# Altium integrated library AD DSP 16-Bit.IntLib: 146 symbols (part 2 of 7)
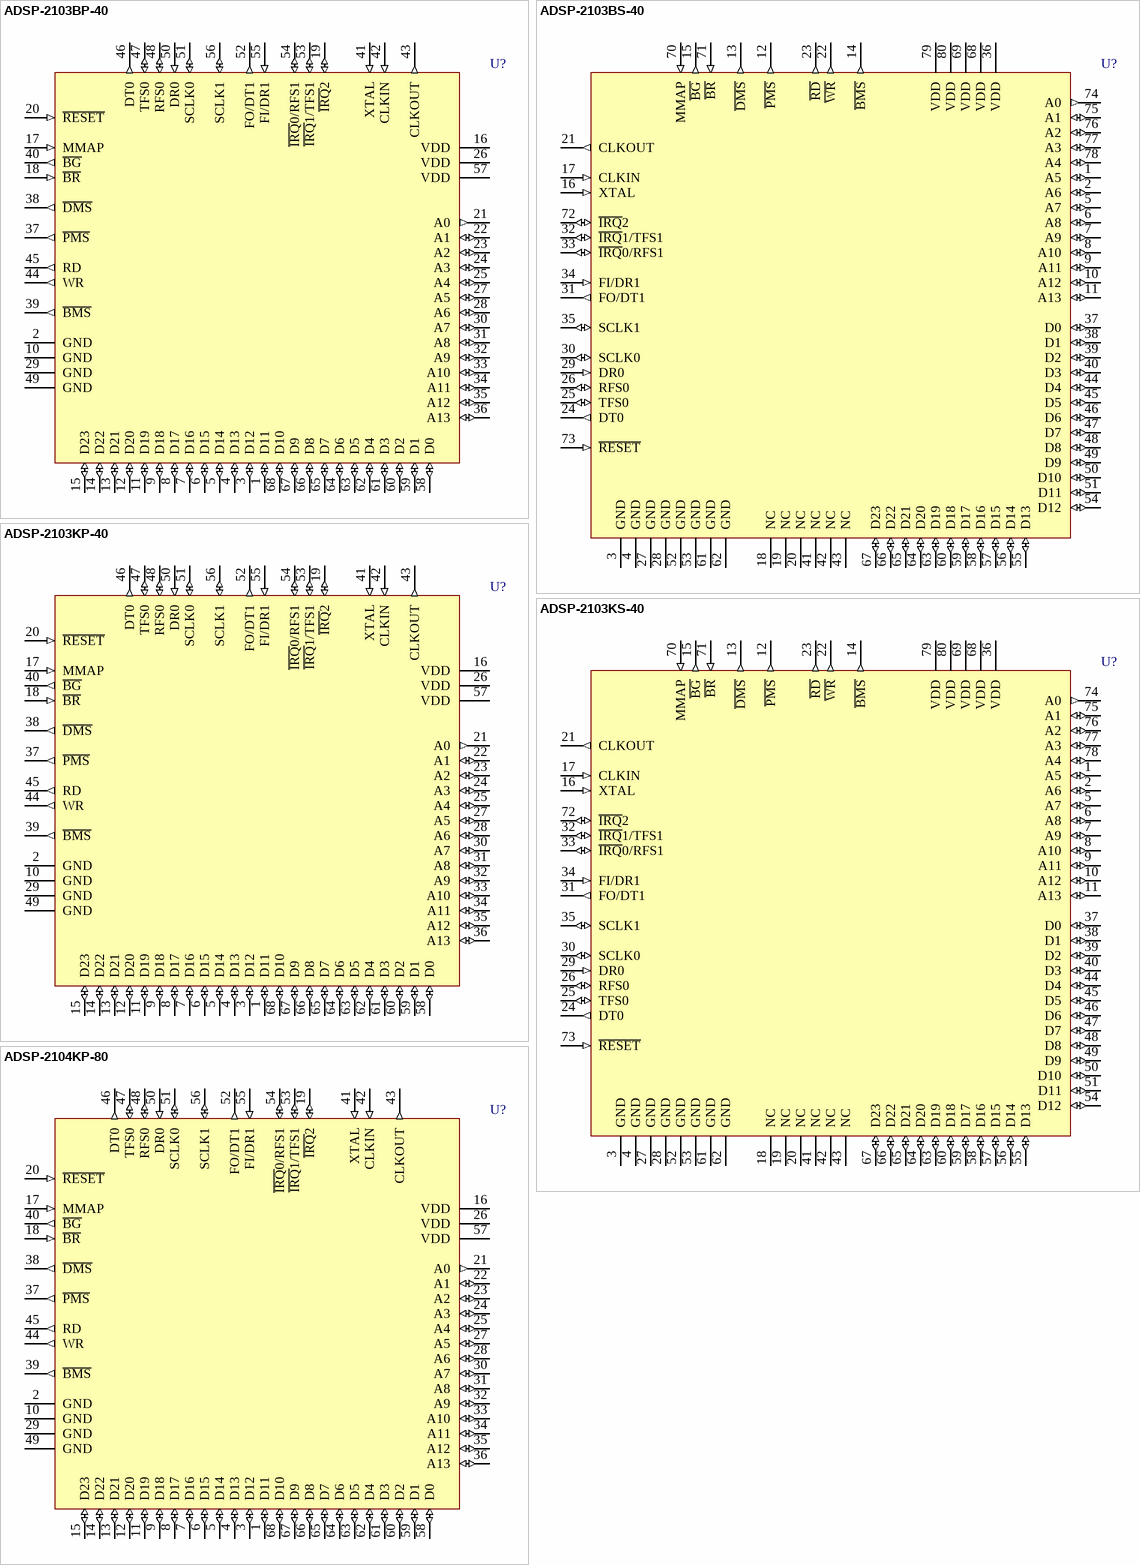
[diagram p46: symbols ADSP-2103BP-40 to ADSP-2104KP-80]

## ADSP-2103KP-40
designator U?
10.2 MIPS, 3.3V, 2 Serial Ports; Published: 24-Aug-2001; LatestRevisionDate: 13-Apr-2006; LatestRevisionNote: IPC-7351 Footprint Added.; DatasheetVersion: 1996; PackageReference: P-68A; Publisher: Altium Limited; PackageDescription: 68-Pin Leaded Chip Carrier 1.27 mm Pitch; Code_IPC: PLCC-68; ComponentLink1Description: Manufacturer Link; ComponentLink1URL: http://www.analog.com/; ComponentLink2Description: Datasheet; ComponentLink2URL: http://www.analog.com/UploadedFiles/Data_Sheets/88076770adsp21xx.pdf
footprint P-68A_N (Leaded Chip Carrier, 68-Leads, Body 24x24mm, Pitch 1.27mm, IPC Medium Density)
footprint P-68A_L (Leaded Chip Carrier, 68-Leads, Body 24x24mm, Pitch 1.27mm, IPC High Density)
footprint P-68A_M (Leaded Chip Carrier, 68-Leads, Body 24x24mm, Pitch 1.27mm, IPC Low Density)
3D model 2103-P-68A (68-Pin Leaded Chip Carrier 1.27 mm Pitch)
pins: 1 D11 (io), 2 GND (power), 3 D12 (io), 4 D13 (io), 5 D14 (io), 6 D15 (io), 7 D16 (io), 8 D17 (io), 9 D18 (io), 10 GND (power), 11 D19 (io), 12 D20 (io), 13 D21 (io), 14 D22 (io), 15 D23 (io), 16 VDD (power), 17 MMAP (in), 18 ~{BR} (in), 19 ~{IRQ}2 (io), 20 ~{RESET} (in), 21 A0 (out), 22 A1 (io), 23 A2 (io), 24 A3 (io), 25 A4 (io), 26 VDD (power), 27 A5 (io), 28 A6 (io), 29 GND (power), 30 A7 (io), 31 A8 (io), 32 A9 (io), 33 A10 (io), 34 A11 (io), 35 A12 (io), 36 A13 (io), 37 ~{PMS} (out), 38 ~{DMS} (out), 39 ~{BMS} (out), 40 ~{BG} (out), 41 XTAL (in), 42 CLKIN (in), 43 CLKOUT (out), 44 WR (out), 45 RD (out), 46 DT0 (out), 47 TFS0 (io), 48 RFS0 (io), 49 GND (power), 50 DR0 (in), 51 SCLK0 (io), 52 FO/DT1 (out), 53 ~{IRQ}1/TFS1 (io), 54 ~{IRQ}0/RFS1 (io), 55 FI/DR1 (in), 56 SCLK1 (io), 57 VDD (power), 58 D0 (io), 59 D1 (io), 60 D2 (io), 61 D3 (io), 62 D4 (io), 63 D5 (io), 64 D6 (io), 65 D7 (io), 66 D8 (io), 67 D9 (io), 68 D10 (io)

## ADSP-2103KS-40
designator U?
10.2 MIPS, 3.3V, 2 Serial Ports; Published: 24-Aug-2001; LatestRevisionDate: 13-Apr-2006; LatestRevisionNote: IPC-7351 Footprint Added.; DatasheetVersion: 1996; PackageVersion: 1996; PackageReference: S-80; Publisher: Altium Limited; PackageDescription: 80-Pin Quad Flat Pack 0.65 mm Pitch; Code_IPC: QFP65P1720X1720-80; ComponentLink1Description: Manufacturer Link; ComponentLink1URL: http://www.analog.com/; ComponentLink2Description: Datasheet; ComponentLink2URL: http://www.analog.com/UploadedFiles/Data_Sheets/88076770adsp21xx.pdf
footprint S-80_N (QFP, 80-Leads, Body 14 x 14mm, Pitch 0.65mm, IPC Medium Density)
footprint S-80_L (QFP, 80-Leads, Body 14 x 14mm, Pitch 0.65mm, IPC High Density)
footprint S-80_M (QFP, 80-Leads, Body 14 x 14mm, Pitch 0.65mm, IPC Low Density)
3D model 2103-S80 (80-Pin Quad Flat Pack 0.65 mm Pitch)
pins: 1 A5 (io), 2 A6 (io), 3 GND (power), 4 GND (power), 5 A7 (io), 6 A8 (io), 7 A9 (io), 8 A10 (io), 9 A11 (io), 10 A12 (io), 11 A13 (io), 12 ~{PMS} (out), 13 ~{DMS} (out), 14 ~{BMS} (out), 15 ~{BG} (out), 16 XTAL (in), 17 CLKIN (in), 18 NC, 19 NC, 20 NC, 21 CLKOUT (out), 22 ~{WR} (out), 23 ~{RD} (out), 24 DT0 (out), 25 TFS0 (io), 26 RFS0 (io), 27 GND (power), 28 GND (power), 29 DR0 (in), 30 SCLK0 (io), 31 FO/DT1 (out), 32 ~{IRQ}1/TFS1 (io), 33 ~{IRQ}0/RFS1 (io), 34 FI/DR1 (in), 35 SCLK1 (io), 36 VDD (power), 37 D0 (io), 38 D1 (io), 39 D2 (io), 40 D3 (io), 41 NC, 42 NC, 43 NC, 44 D4 (io), 45 D5 (io), 46 D6 (io), 47 D7 (io), 48 D8 (io), 49 D9 (io), 50 D10 (io), 51 D11 (io), 52 GND (power), 53 GND (power), 54 D12 (io), 55 D13 (io), 56 D14 (io), 57 D15 (io), 58 D16 (io), 59 D17 (io), 60 D18 (io), 61 GND (power), 62 GND (power), 63 D19 (io), 64 D20 (io), 65 D21 (io), 66 D22 (io), 67 D23 (io), 68 VDD (power), 69 VDD (power), 70 MMAP (in), 71 ~{BR} (in), 72 ~{IRQ}2 (io), 73 ~{RESET} (in), 74 A0 (out), 75 A1 (io), 76 A2 (io), 77 A3 (io), 78 A4 (io), 79 VDD (power), 80 VDD (power)

## ADSP-2104KP-80
designator U?
20 MIPS, 5V, 2 Serial Ports; Published: 24-Aug-2001; LatestRevisionDate: 13-Apr-2006; LatestRevisionNote: IPC-7351 Footprint Added.; DatasheetVersion: 1996; PackageReference: P-68A; Publisher: Altium Limited; PackageDescription: 68-Pin Leaded Chip Carrier 1.27 mm Pitch; Code_IPC: PLCC-68; ComponentLink1Description: Manufacturer Link; ComponentLink1URL: http://www.analog.com/
footprint P-68A_N (Leaded Chip Carrier, 68-Leads, Body 24x24mm, Pitch 1.27mm, IPC Medium Density)
footprint P-68A_L (Leaded Chip Carrier, 68-Leads, Body 24x24mm, Pitch 1.27mm, IPC High Density)
footprint P-68A_M (Leaded Chip Carrier, 68-Leads, Body 24x24mm, Pitch 1.27mm, IPC Low Density)
3D model 2104-P-68A (68-Pin Leaded Chip Carrier 1.27 mm Pitch)
pins: 1 D11 (io), 2 GND (power), 3 D12 (io), 4 D13 (io), 5 D14 (io), 6 D15 (io), 7 D16 (io), 8 D17 (io), 9 D18 (io), 10 GND (power), 11 D19 (io), 12 D20 (io), 13 D21 (io), 14 D22 (io), 15 D23 (io), 16 VDD (power), 17 MMAP (in), 18 ~{BR} (in), 19 ~{IRQ}2 (io), 20 ~{RESET} (in), 21 A0 (out), 22 A1 (io), 23 A2 (io), 24 A3 (io), 25 A4 (io), 26 VDD (power), 27 A5 (io), 28 A6 (io), 29 GND (power), 30 A7 (io), 31 A8 (io), 32 A9 (io), 33 A10 (io), 34 A11 (io), 35 A12 (io), 36 A13 (io), 37 ~{PMS} (out), 38 ~{DMS} (out), 39 ~{BMS} (out), 40 ~{BG} (out), 41 XTAL (in), 42 CLKIN (in), 43 CLKOUT (out), 44 WR (out), 45 RD (out), 46 DT0 (out), 47 TFS0 (io), 48 RFS0 (io), 49 GND (power), 50 DR0 (in), 51 SCLK0 (io), 52 FO/DT1 (out), 53 ~{IRQ}1/TFS1 (io), 54 ~{IRQ}0/RFS1 (io), 55 FI/DR1 (in), 56 SCLK1 (io), 57 VDD (power), 58 D0 (io), 59 D1 (io), 60 D2 (io), 61 D3 (io), 62 D4 (io), 63 D5 (io), 64 D6 (io), 65 D7 (io), 66 D8 (io), 67 D9 (io), 68 D10 (io)

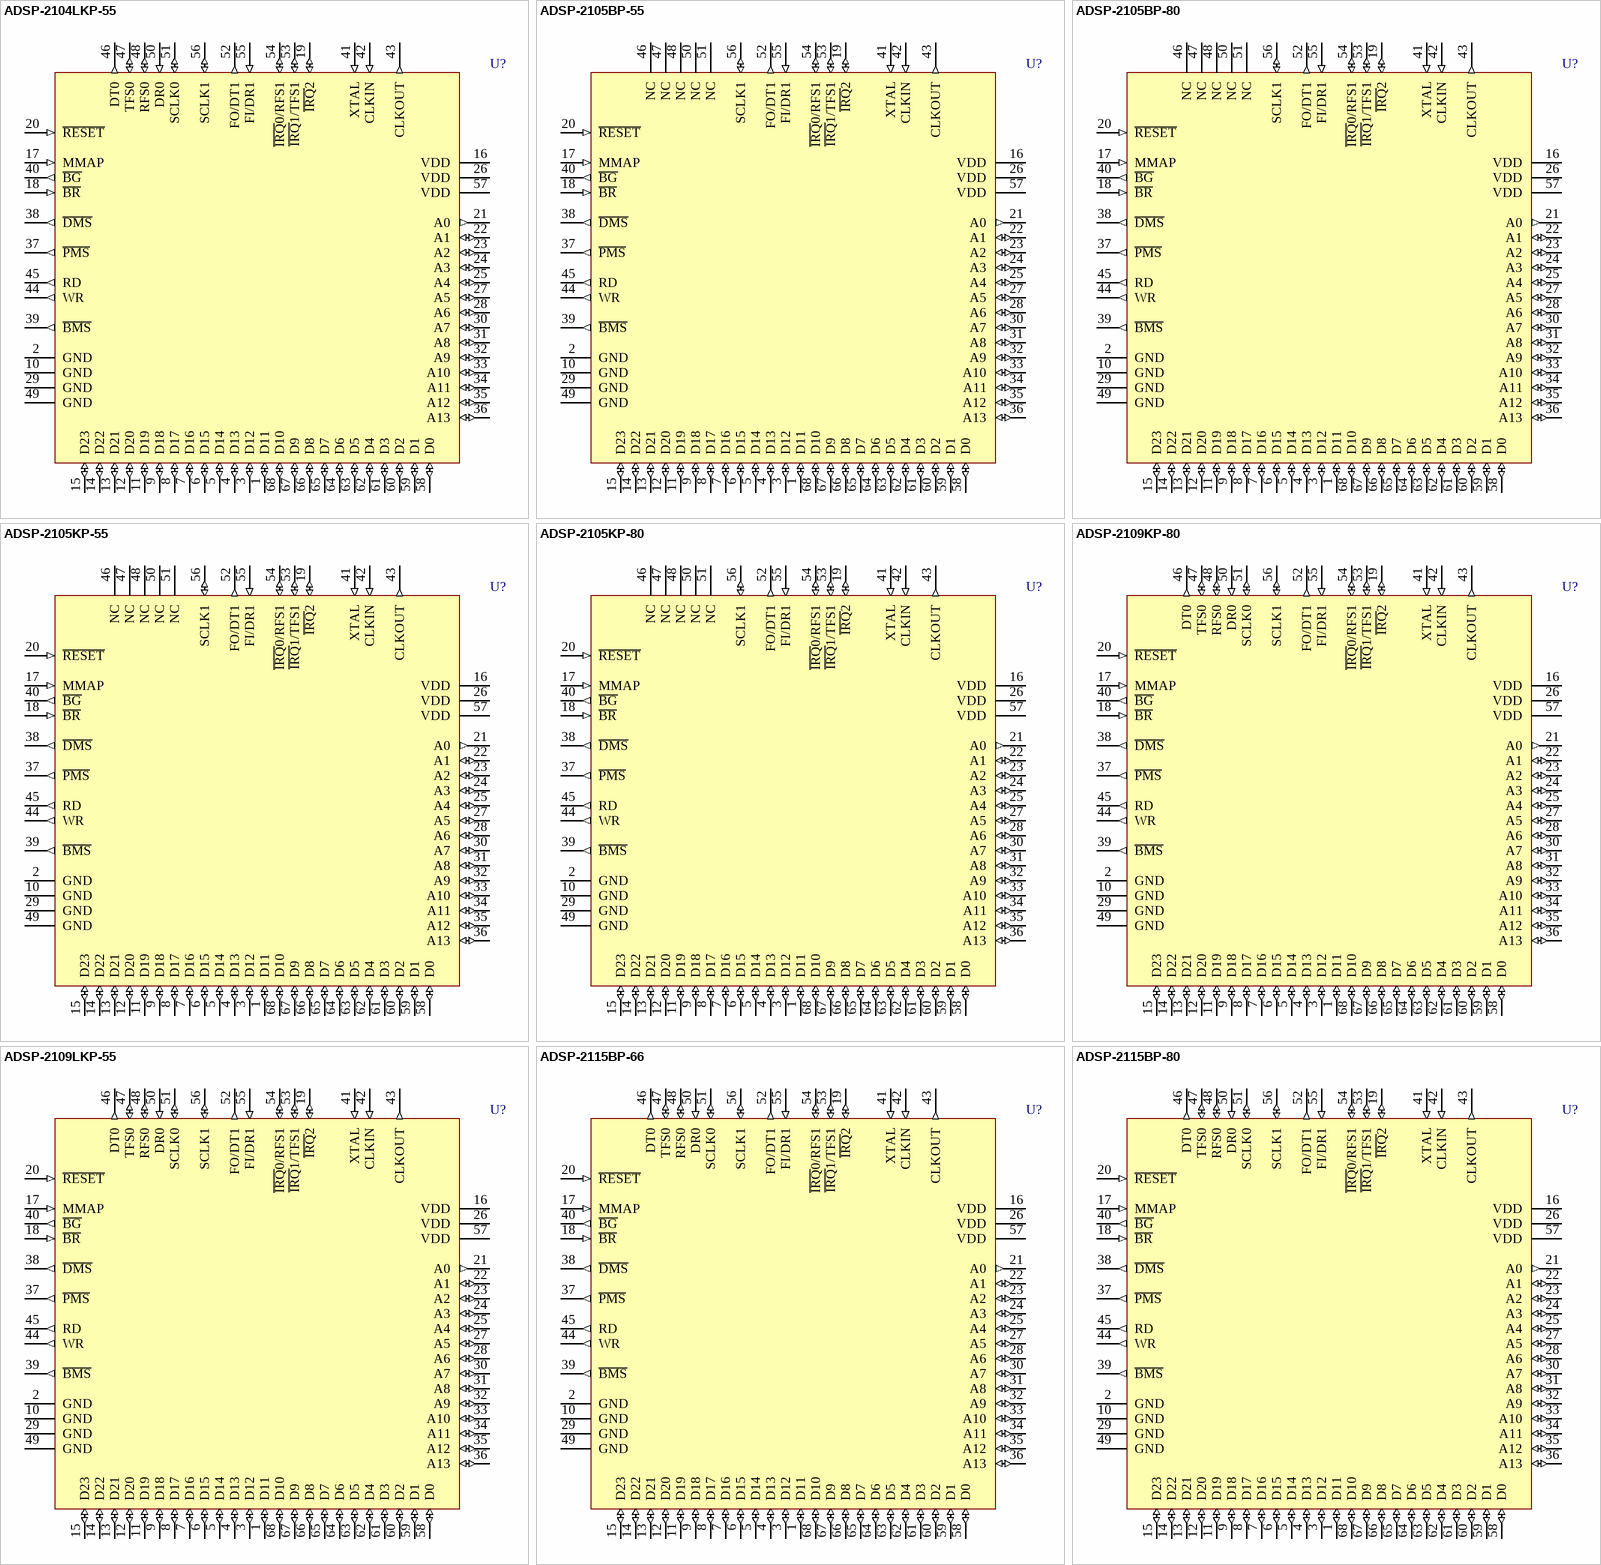
[diagram p8: symbols ADSP-2104LKP-55 to ADSP-2115BP-80]

## ADSP-2104LKP-55
designator U?
13 MIPS, 3.3V, 2 Serial Ports; Published: 24-Aug-2001; LatestRevisionDate: 13-Apr-2006; LatestRevisionNote: IPC-7351 Footprint Added.; DatasheetVersion: 1996; PackageReference: P-68A; Publisher: Altium Limited; PackageDescription: 68-Pin Leaded Chip Carrier 1.27 mm Pitch; Code_IPC: PLCC-68; ComponentLink1Description: Manufacturer Link; ComponentLink1URL: http://www.analog.com/
footprint P-68A_N (Leaded Chip Carrier, 68-Leads, Body 24x24mm, Pitch 1.27mm, IPC Medium Density)
footprint P-68A_L (Leaded Chip Carrier, 68-Leads, Body 24x24mm, Pitch 1.27mm, IPC High Density)
footprint P-68A_M (Leaded Chip Carrier, 68-Leads, Body 24x24mm, Pitch 1.27mm, IPC Low Density)
3D model 2104L-P-68A (68-Pin Leaded Chip Carrier 1.27 mm Pitch)
pins: 1 D11 (io), 2 GND (power), 3 D12 (io), 4 D13 (io), 5 D14 (io), 6 D15 (io), 7 D16 (io), 8 D17 (io), 9 D18 (io), 10 GND (power), 11 D19 (io), 12 D20 (io), 13 D21 (io), 14 D22 (io), 15 D23 (io), 16 VDD (power), 17 MMAP (in), 18 ~{BR} (in), 19 ~{IRQ}2 (io), 20 ~{RESET} (in), 21 A0 (out), 22 A1 (io), 23 A2 (io), 24 A3 (io), 25 A4 (io), 26 VDD (power), 27 A5 (io), 28 A6 (io), 29 GND (power), 30 A7 (io), 31 A8 (io), 32 A9 (io), 33 A10 (io), 34 A11 (io), 35 A12 (io), 36 A13 (io), 37 ~{PMS} (out), 38 ~{DMS} (out), 39 ~{BMS} (out), 40 ~{BG} (out), 41 XTAL (in), 42 CLKIN (in), 43 CLKOUT (out), 44 WR (out), 45 RD (out), 46 DT0 (out), 47 TFS0 (io), 48 RFS0 (io), 49 GND (power), 50 DR0 (in), 51 SCLK0 (io), 52 FO/DT1 (out), 53 ~{IRQ}1/TFS1 (io), 54 ~{IRQ}0/RFS1 (io), 55 FI/DR1 (in), 56 SCLK1 (io), 57 VDD (power), 58 D0 (io), 59 D1 (io), 60 D2 (io), 61 D3 (io), 62 D4 (io), 63 D5 (io), 64 D6 (io), 65 D7 (io), 66 D8 (io), 67 D9 (io), 68 D10 (io)

## ADSP-2105BP-55
designator U?
20 MIPS, 5V, 1 Serial Port; Published: 24-Aug-2001; LatestRevisionDate: 13-Apr-2006; LatestRevisionNote: IPC-7351 Footprint Added.; DatasheetVersion: 1996; PackageReference: P-68A; Publisher: Altium Limited; PackageDescription: 68-Pin Leaded Chip Carrier 1.27 mm Pitch; Code_IPC: PLCC-68; ComponentLink1Description: Manufacturer Link; ComponentLink1URL: http://www.analog.com/; ComponentLink2Description: Datasheet; ComponentLink2URL: http://www.analog.com/UploadedFiles/Data_Sheets/88076770adsp21xx.pdf
footprint P-68A_N (Leaded Chip Carrier, 68-Leads, Body 24x24mm, Pitch 1.27mm, IPC Medium Density)
footprint P-68A_L (Leaded Chip Carrier, 68-Leads, Body 24x24mm, Pitch 1.27mm, IPC High Density)
footprint P-68A_M (Leaded Chip Carrier, 68-Leads, Body 24x24mm, Pitch 1.27mm, IPC Low Density)
3D model 2105-P-68A (68-Pin Leaded Chip Carrier 1.27 mm Pitch)
pins: 1 D11 (io), 2 GND (power), 3 D12 (io), 4 D13 (io), 5 D14 (io), 6 D15 (io), 7 D16 (io), 8 D17 (io), 9 D18 (io), 10 GND (power), 11 D19 (io), 12 D20 (io), 13 D21 (io), 14 D22 (io), 15 D23 (io), 16 VDD (power), 17 MMAP (in), 18 ~{BR} (in), 19 ~{IRQ}2 (io), 20 ~{RESET} (in), 21 A0 (out), 22 A1 (io), 23 A2 (io), 24 A3 (io), 25 A4 (io), 26 VDD (power), 27 A5 (io), 28 A6 (io), 29 GND (power), 30 A7 (io), 31 A8 (io), 32 A9 (io), 33 A10 (io), 34 A11 (io), 35 A12 (io), 36 A13 (io), 37 ~{PMS} (out), 38 ~{DMS} (out), 39 ~{BMS} (out), 40 ~{BG} (out), 41 XTAL (in), 42 CLKIN (in), 43 CLKOUT (out), 44 WR (out), 45 RD (out), 46 NC, 47 NC, 48 NC, 49 GND (power), 50 NC, 51 NC, 52 FO/DT1 (out), 53 ~{IRQ}1/TFS1 (io), 54 ~{IRQ}0/RFS1 (io), 55 FI/DR1 (in), 56 SCLK1 (io), 57 VDD (power), 58 D0 (io), 59 D1 (io), 60 D2 (io), 61 D3 (io), 62 D4 (io), 63 D5 (io), 64 D6 (io), 65 D7 (io), 66 D8 (io), 67 D9 (io), 68 D10 (io)

## ADSP-2105BP-80
designator U?
20 MIPS, 5V, 1 Serial Port; Published: 24-Aug-2001; LatestRevisionDate: 13-Apr-2006; LatestRevisionNote: IPC-7351 Footprint Added.; DatasheetVersion: 1996; PackageReference: P-68A; Publisher: Altium Limited; PackageDescription: 68-Pin Leaded Chip Carrier 1.27 mm Pitch; Code_IPC: PLCC-68; ComponentLink1Description: Manufacturer Link; ComponentLink1URL: http://www.analog.com/; ComponentLink2Description: Datasheet; ComponentLink2URL: http://www.analog.com/UploadedFiles/Data_Sheets/88076770adsp21xx.pdf
footprint P-68A_N (Leaded Chip Carrier, 68-Leads, Body 24x24mm, Pitch 1.27mm, IPC Medium Density)
footprint P-68A_L (Leaded Chip Carrier, 68-Leads, Body 24x24mm, Pitch 1.27mm, IPC High Density)
footprint P-68A_M (Leaded Chip Carrier, 68-Leads, Body 24x24mm, Pitch 1.27mm, IPC Low Density)
3D model 2105-P-68A (68-Pin Leaded Chip Carrier 1.27 mm Pitch)
pins: 1 D11 (io), 2 GND (power), 3 D12 (io), 4 D13 (io), 5 D14 (io), 6 D15 (io), 7 D16 (io), 8 D17 (io), 9 D18 (io), 10 GND (power), 11 D19 (io), 12 D20 (io), 13 D21 (io), 14 D22 (io), 15 D23 (io), 16 VDD (power), 17 MMAP (in), 18 ~{BR} (in), 19 ~{IRQ}2 (io), 20 ~{RESET} (in), 21 A0 (out), 22 A1 (io), 23 A2 (io), 24 A3 (io), 25 A4 (io), 26 VDD (power), 27 A5 (io), 28 A6 (io), 29 GND (power), 30 A7 (io), 31 A8 (io), 32 A9 (io), 33 A10 (io), 34 A11 (io), 35 A12 (io), 36 A13 (io), 37 ~{PMS} (out), 38 ~{DMS} (out), 39 ~{BMS} (out), 40 ~{BG} (out), 41 XTAL (in), 42 CLKIN (in), 43 CLKOUT (out), 44 WR (out), 45 RD (out), 46 NC, 47 NC, 48 NC, 49 GND (power), 50 NC, 51 NC, 52 FO/DT1 (out), 53 ~{IRQ}1/TFS1 (io), 54 ~{IRQ}0/RFS1 (io), 55 FI/DR1 (in), 56 SCLK1 (io), 57 VDD (power), 58 D0 (io), 59 D1 (io), 60 D2 (io), 61 D3 (io), 62 D4 (io), 63 D5 (io), 64 D6 (io), 65 D7 (io), 66 D8 (io), 67 D9 (io), 68 D10 (io)

## ADSP-2105KP-55
designator U?
20 MIPS, 5V, 1 Serial Port; Published: 24-Aug-2001; LatestRevisionDate: 13-Apr-2006; LatestRevisionNote: IPC-7351 Footprint Added.; DatasheetVersion: 1996; PackageReference: P-68A; Publisher: Altium Limited; PackageDescription: 68-Pin Leaded Chip Carrier 1.27 mm Pitch; Code_IPC: PLCC-68; ComponentLink1Description: Manufacturer Link; ComponentLink1URL: http://www.analog.com/; ComponentLink2Description: Datasheet; ComponentLink2URL: http://www.analog.com/UploadedFiles/Data_Sheets/88076770adsp21xx.pdf
footprint P-68A_N (Leaded Chip Carrier, 68-Leads, Body 24x24mm, Pitch 1.27mm, IPC Medium Density)
footprint P-68A_L (Leaded Chip Carrier, 68-Leads, Body 24x24mm, Pitch 1.27mm, IPC High Density)
footprint P-68A_M (Leaded Chip Carrier, 68-Leads, Body 24x24mm, Pitch 1.27mm, IPC Low Density)
3D model 2105-P-68A (68-Pin Leaded Chip Carrier 1.27 mm Pitch)
pins: 1 D11 (io), 2 GND (power), 3 D12 (io), 4 D13 (io), 5 D14 (io), 6 D15 (io), 7 D16 (io), 8 D17 (io), 9 D18 (io), 10 GND (power), 11 D19 (io), 12 D20 (io), 13 D21 (io), 14 D22 (io), 15 D23 (io), 16 VDD (power), 17 MMAP (in), 18 ~{BR} (in), 19 ~{IRQ}2 (io), 20 ~{RESET} (in), 21 A0 (out), 22 A1 (io), 23 A2 (io), 24 A3 (io), 25 A4 (io), 26 VDD (power), 27 A5 (io), 28 A6 (io), 29 GND (power), 30 A7 (io), 31 A8 (io), 32 A9 (io), 33 A10 (io), 34 A11 (io), 35 A12 (io), 36 A13 (io), 37 ~{PMS} (out), 38 ~{DMS} (out), 39 ~{BMS} (out), 40 ~{BG} (out), 41 XTAL (in), 42 CLKIN (in), 43 CLKOUT (out), 44 WR (out), 45 RD (out), 46 NC, 47 NC, 48 NC, 49 GND (power), 50 NC, 51 NC, 52 FO/DT1 (out), 53 ~{IRQ}1/TFS1 (io), 54 ~{IRQ}0/RFS1 (io), 55 FI/DR1 (in), 56 SCLK1 (io), 57 VDD (power), 58 D0 (io), 59 D1 (io), 60 D2 (io), 61 D3 (io), 62 D4 (io), 63 D5 (io), 64 D6 (io), 65 D7 (io), 66 D8 (io), 67 D9 (io), 68 D10 (io)

## ADSP-2105KP-80
designator U?
20 MIPS, 5V, 1 Serial Port; Published: 24-Aug-2001; LatestRevisionDate: 13-Apr-2006; LatestRevisionNote: IPC-7351 Footprint Added.; DatasheetVersion: 1996; PackageReference: P-68A; Publisher: Altium Limited; PackageDescription: 68-Pin Leaded Chip Carrier 1.27 mm Pitch; Code_IPC: PLCC-68; ComponentLink1Description: Manufacturer Link; ComponentLink1URL: http://www.analog.com/; ComponentLink2Description: Datasheet; ComponentLink2URL: http://www.analog.com/UploadedFiles/Data_Sheets/88076770adsp21xx.pdf
footprint P-68A_N (Leaded Chip Carrier, 68-Leads, Body 24x24mm, Pitch 1.27mm, IPC Medium Density)
footprint P-68A_L (Leaded Chip Carrier, 68-Leads, Body 24x24mm, Pitch 1.27mm, IPC High Density)
footprint P-68A_M (Leaded Chip Carrier, 68-Leads, Body 24x24mm, Pitch 1.27mm, IPC Low Density)
3D model 2105-P-68A (68-Pin Leaded Chip Carrier 1.27 mm Pitch)
pins: 1 D11 (io), 2 GND (power), 3 D12 (io), 4 D13 (io), 5 D14 (io), 6 D15 (io), 7 D16 (io), 8 D17 (io), 9 D18 (io), 10 GND (power), 11 D19 (io), 12 D20 (io), 13 D21 (io), 14 D22 (io), 15 D23 (io), 16 VDD (power), 17 MMAP (in), 18 ~{BR} (in), 19 ~{IRQ}2 (io), 20 ~{RESET} (in), 21 A0 (out), 22 A1 (io), 23 A2 (io), 24 A3 (io), 25 A4 (io), 26 VDD (power), 27 A5 (io), 28 A6 (io), 29 GND (power), 30 A7 (io), 31 A8 (io), 32 A9 (io), 33 A10 (io), 34 A11 (io), 35 A12 (io), 36 A13 (io), 37 ~{PMS} (out), 38 ~{DMS} (out), 39 ~{BMS} (out), 40 ~{BG} (out), 41 XTAL (in), 42 CLKIN (in), 43 CLKOUT (out), 44 WR (out), 45 RD (out), 46 NC, 47 NC, 48 NC, 49 GND (power), 50 NC, 51 NC, 52 FO/DT1 (out), 53 ~{IRQ}1/TFS1 (io), 54 ~{IRQ}0/RFS1 (io), 55 FI/DR1 (in), 56 SCLK1 (io), 57 VDD (power), 58 D0 (io), 59 D1 (io), 60 D2 (io), 61 D3 (io), 62 D4 (io), 63 D5 (io), 64 D6 (io), 65 D7 (io), 66 D8 (io), 67 D9 (io), 68 D10 (io)

## ADSP-2109KP-80
designator U?
20 MIPS, 5V, 2 Serial Ports; Published: 24-Aug-2001; LatestRevisionDate: 13-Apr-2006; LatestRevisionNote: IPC-7351 Footprint Added.; DatasheetVersion: 1996; PackageReference: P-68A; Publisher: Altium Limited; PackageDescription: 68-Pin Leaded Chip Carrier 1.27 mm Pitch; Code_IPC: PLCC-68; ComponentLink1Description: Manufacturer Link; ComponentLink1URL: http://www.analog.com/
footprint P-68A_N (Leaded Chip Carrier, 68-Leads, Body 24x24mm, Pitch 1.27mm, IPC Medium Density)
footprint P-68A_L (Leaded Chip Carrier, 68-Leads, Body 24x24mm, Pitch 1.27mm, IPC High Density)
footprint P-68A_M (Leaded Chip Carrier, 68-Leads, Body 24x24mm, Pitch 1.27mm, IPC Low Density)
3D model 2109-P-68A (68-Pin Leaded Chip Carrier 1.27 mm Pitch)
pins: 1 D11 (io), 2 GND (power), 3 D12 (io), 4 D13 (io), 5 D14 (io), 6 D15 (io), 7 D16 (io), 8 D17 (io), 9 D18 (io), 10 GND (power), 11 D19 (io), 12 D20 (io), 13 D21 (io), 14 D22 (io), 15 D23 (io), 16 VDD (power), 17 MMAP (in), 18 ~{BR} (in), 19 ~{IRQ}2 (io), 20 ~{RESET} (in), 21 A0 (out), 22 A1 (io), 23 A2 (io), 24 A3 (io), 25 A4 (io), 26 VDD (power), 27 A5 (io), 28 A6 (io), 29 GND (power), 30 A7 (io), 31 A8 (io), 32 A9 (io), 33 A10 (io), 34 A11 (io), 35 A12 (io), 36 A13 (io), 37 ~{PMS} (out), 38 ~{DMS} (out), 39 ~{BMS} (out), 40 ~{BG} (out), 41 XTAL (in), 42 CLKIN (in), 43 CLKOUT (out), 44 WR (out), 45 RD (out), 46 DT0 (out), 47 TFS0 (io), 48 RFS0 (io), 49 GND (power), 50 DR0 (in), 51 SCLK0 (io), 52 FO/DT1 (out), 53 ~{IRQ}1/TFS1 (io), 54 ~{IRQ}0/RFS1 (io), 55 FI/DR1 (in), 56 SCLK1 (io), 57 VDD (power), 58 D0 (io), 59 D1 (io), 60 D2 (io), 61 D3 (io), 62 D4 (io), 63 D5 (io), 64 D6 (io), 65 D7 (io), 66 D8 (io), 67 D9 (io), 68 D10 (io)

## ADSP-2109LKP-55
designator U?
13 MIPS, 3.3V, 2 Serial Ports; Published: 24-Aug-2001; LatestRevisionDate: 13-Apr-2006; LatestRevisionNote: IPC-7351 Footprint Added.; DatasheetVersion: 1996; PackageReference: P-68A; Publisher: Altium Limited; PackageDescription: 68-Pin Leaded Chip Carrier 1.27 mm Pitch; Code_IPC: PLCC-68; ComponentLink1Description: Manufacturer Link; ComponentLink1URL: http://www.analog.com/
footprint P-68A_N (Leaded Chip Carrier, 68-Leads, Body 24x24mm, Pitch 1.27mm, IPC Medium Density)
footprint P-68A_L (Leaded Chip Carrier, 68-Leads, Body 24x24mm, Pitch 1.27mm, IPC High Density)
footprint P-68A_M (Leaded Chip Carrier, 68-Leads, Body 24x24mm, Pitch 1.27mm, IPC Low Density)
3D model 2109L-P-68A (68-Pin Leaded Chip Carrier 1.27 mm Pitch)
pins: 1 D11 (io), 2 GND (power), 3 D12 (io), 4 D13 (io), 5 D14 (io), 6 D15 (io), 7 D16 (io), 8 D17 (io), 9 D18 (io), 10 GND (power), 11 D19 (io), 12 D20 (io), 13 D21 (io), 14 D22 (io), 15 D23 (io), 16 VDD (power), 17 MMAP (in), 18 ~{BR} (in), 19 ~{IRQ}2 (io), 20 ~{RESET} (in), 21 A0 (out), 22 A1 (io), 23 A2 (io), 24 A3 (io), 25 A4 (io), 26 VDD (power), 27 A5 (io), 28 A6 (io), 29 GND (power), 30 A7 (io), 31 A8 (io), 32 A9 (io), 33 A10 (io), 34 A11 (io), 35 A12 (io), 36 A13 (io), 37 ~{PMS} (out), 38 ~{DMS} (out), 39 ~{BMS} (out), 40 ~{BG} (out), 41 XTAL (in), 42 CLKIN (in), 43 CLKOUT (out), 44 WR (out), 45 RD (out), 46 DT0 (out), 47 TFS0 (io), 48 RFS0 (io), 49 GND (power), 50 DR0 (in), 51 SCLK0 (io), 52 FO/DT1 (out), 53 ~{IRQ}1/TFS1 (io), 54 ~{IRQ}0/RFS1 (io), 55 FI/DR1 (in), 56 SCLK1 (io), 57 VDD (power), 58 D0 (io), 59 D1 (io), 60 D2 (io), 61 D3 (io), 62 D4 (io), 63 D5 (io), 64 D6 (io), 65 D7 (io), 66 D8 (io), 67 D9 (io), 68 D10 (io)

## ADSP-2115BP-66
designator U?
25 MIPS, 5V, 2 Serial Port; Published: 24-Aug-2001; LatestRevisionDate: 13-Apr-2006; LatestRevisionNote: IPC-7351 Footprint Added.; DatasheetVersion: 1996; PackageReference: P-68A; Publisher: Altium Limited; PackageDescription: 68-Pin Leaded Chip Carrier 1.27 mm Pitch; Code_IPC: PLCC-68; ComponentLink1Description: Manufacturer Link; ComponentLink1URL: http://www.analog.com/; ComponentLink2Description: Datasheet; ComponentLink2URL: http://www.analog.com/UploadedFiles/Data_Sheets/88076770adsp21xx.pdf
footprint P-68A_N (Leaded Chip Carrier, 68-Leads, Body 24x24mm, Pitch 1.27mm, IPC Medium Density)
footprint P-68A_L (Leaded Chip Carrier, 68-Leads, Body 24x24mm, Pitch 1.27mm, IPC High Density)
footprint P-68A_M (Leaded Chip Carrier, 68-Leads, Body 24x24mm, Pitch 1.27mm, IPC Low Density)
3D model 2115-P-68A (68-Pin Leaded Chip Carrier 1.27 mm Pitch)
pins: 1 D11 (io), 2 GND (power), 3 D12 (io), 4 D13 (io), 5 D14 (io), 6 D15 (io), 7 D16 (io), 8 D17 (io), 9 D18 (io), 10 GND (power), 11 D19 (io), 12 D20 (io), 13 D21 (io), 14 D22 (io), 15 D23 (io), 16 VDD (power), 17 MMAP (in), 18 ~{BR} (in), 19 ~{IRQ}2 (io), 20 ~{RESET} (in), 21 A0 (out), 22 A1 (io), 23 A2 (io), 24 A3 (io), 25 A4 (io), 26 VDD (power), 27 A5 (io), 28 A6 (io), 29 GND (power), 30 A7 (io), 31 A8 (io), 32 A9 (io), 33 A10 (io), 34 A11 (io), 35 A12 (io), 36 A13 (io), 37 ~{PMS} (out), 38 ~{DMS} (out), 39 ~{BMS} (out), 40 ~{BG} (out), 41 XTAL (in), 42 CLKIN (in), 43 CLKOUT (out), 44 WR (out), 45 RD (out), 46 DT0 (out), 47 TFS0 (io), 48 RFS0 (io), 49 GND (power), 50 DR0 (in), 51 SCLK0 (io), 52 FO/DT1 (out), 53 ~{IRQ}1/TFS1 (io), 54 ~{IRQ}0/RFS1 (io), 55 FI/DR1 (in), 56 SCLK1 (io), 57 VDD (power), 58 D0 (io), 59 D1 (io), 60 D2 (io), 61 D3 (io), 62 D4 (io), 63 D5 (io), 64 D6 (io), 65 D7 (io), 66 D8 (io), 67 D9 (io), 68 D10 (io)

## ADSP-2115BP-80
designator U?
25 MIPS, 5V, 2 Serial Port; Published: 24-Aug-2001; LatestRevisionDate: 13-Apr-2006; LatestRevisionNote: IPC-7351 Footprint Added.; DatasheetVersion: 1996; PackageReference: P-68A; Publisher: Altium Limited; PackageDescription: 68-Pin Leaded Chip Carrier 1.27 mm Pitch; Code_IPC: PLCC-68; ComponentLink1Description: Manufacturer Link; ComponentLink1URL: http://www.analog.com/; ComponentLink2Description: Datasheet; ComponentLink2URL: http://www.analog.com/UploadedFiles/Data_Sheets/88076770adsp21xx.pdf
footprint P-68A_N (Leaded Chip Carrier, 68-Leads, Body 24x24mm, Pitch 1.27mm, IPC Medium Density)
footprint P-68A_L (Leaded Chip Carrier, 68-Leads, Body 24x24mm, Pitch 1.27mm, IPC High Density)
footprint P-68A_M (Leaded Chip Carrier, 68-Leads, Body 24x24mm, Pitch 1.27mm, IPC Low Density)
3D model 2115-P-68A (68-Pin Leaded Chip Carrier 1.27 mm Pitch)
pins: 1 D11 (io), 2 GND (power), 3 D12 (io), 4 D13 (io), 5 D14 (io), 6 D15 (io), 7 D16 (io), 8 D17 (io), 9 D18 (io), 10 GND (power), 11 D19 (io), 12 D20 (io), 13 D21 (io), 14 D22 (io), 15 D23 (io), 16 VDD (power), 17 MMAP (in), 18 ~{BR} (in), 19 ~{IRQ}2 (io), 20 ~{RESET} (in), 21 A0 (out), 22 A1 (io), 23 A2 (io), 24 A3 (io), 25 A4 (io), 26 VDD (power), 27 A5 (io), 28 A6 (io), 29 GND (power), 30 A7 (io), 31 A8 (io), 32 A9 (io), 33 A10 (io), 34 A11 (io), 35 A12 (io), 36 A13 (io), 37 ~{PMS} (out), 38 ~{DMS} (out), 39 ~{BMS} (out), 40 ~{BG} (out), 41 XTAL (in), 42 CLKIN (in), 43 CLKOUT (out), 44 WR (out), 45 RD (out), 46 DT0 (out), 47 TFS0 (io), 48 RFS0 (io), 49 GND (power), 50 DR0 (in), 51 SCLK0 (io), 52 FO/DT1 (out), 53 ~{IRQ}1/TFS1 (io), 54 ~{IRQ}0/RFS1 (io), 55 FI/DR1 (in), 56 SCLK1 (io), 57 VDD (power), 58 D0 (io), 59 D1 (io), 60 D2 (io), 61 D3 (io), 62 D4 (io), 63 D5 (io), 64 D6 (io), 65 D7 (io), 66 D8 (io), 67 D9 (io), 68 D10 (io)

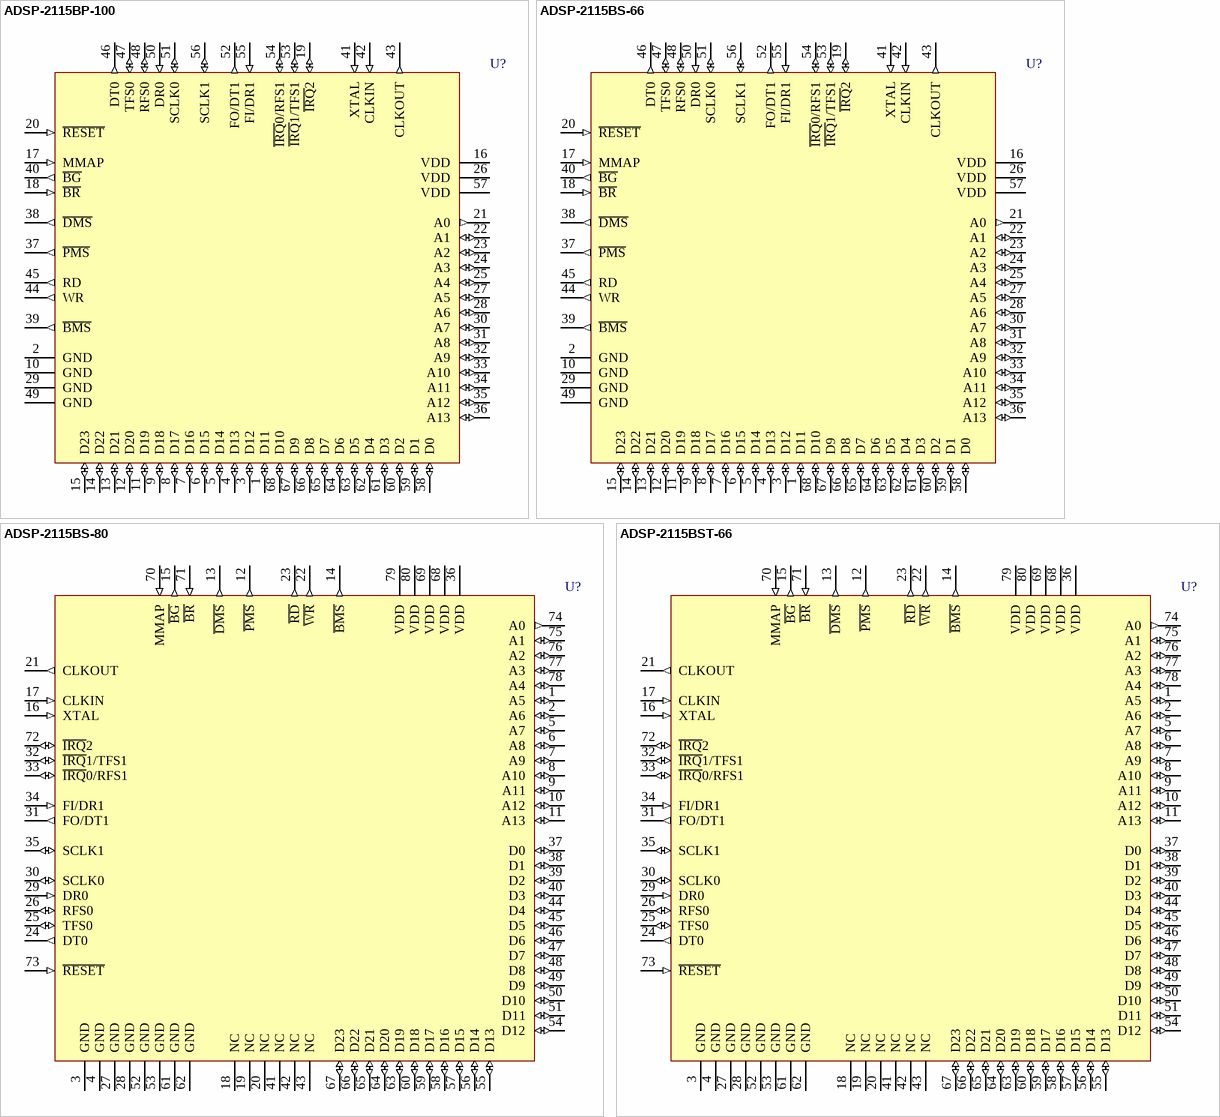
[diagram p9: symbols ADSP-2115BP-100 to ADSP-2115BST-66]

## ADSP-2115BP-100
designator U?
25 MIPS, 5V, 2 Serial Port; Published: 24-Aug-2001; LatestRevisionDate: 13-Apr-2006; LatestRevisionNote: IPC-7351 Footprint Added.; DatasheetVersion: 1996; PackageReference: P-68A; Publisher: Altium Limited; PackageDescription: 68-Pin Leaded Chip Carrier 1.27 mm Pitch; Code_IPC: PLCC-68; ComponentLink1Description: Manufacturer Link; ComponentLink1URL: http://www.analog.com/; ComponentLink2Description: Datasheet; ComponentLink2URL: http://www.analog.com/UploadedFiles/Data_Sheets/88076770adsp21xx.pdf
footprint P-68A_N (Leaded Chip Carrier, 68-Leads, Body 24x24mm, Pitch 1.27mm, IPC Medium Density)
footprint P-68A_L (Leaded Chip Carrier, 68-Leads, Body 24x24mm, Pitch 1.27mm, IPC High Density)
footprint P-68A_M (Leaded Chip Carrier, 68-Leads, Body 24x24mm, Pitch 1.27mm, IPC Low Density)
3D model 2115-P-68A (68-Pin Leaded Chip Carrier 1.27 mm Pitch)
pins: 1 D11 (io), 2 GND (power), 3 D12 (io), 4 D13 (io), 5 D14 (io), 6 D15 (io), 7 D16 (io), 8 D17 (io), 9 D18 (io), 10 GND (power), 11 D19 (io), 12 D20 (io), 13 D21 (io), 14 D22 (io), 15 D23 (io), 16 VDD (power), 17 MMAP (in), 18 ~{BR} (in), 19 ~{IRQ}2 (io), 20 ~{RESET} (in), 21 A0 (out), 22 A1 (io), 23 A2 (io), 24 A3 (io), 25 A4 (io), 26 VDD (power), 27 A5 (io), 28 A6 (io), 29 GND (power), 30 A7 (io), 31 A8 (io), 32 A9 (io), 33 A10 (io), 34 A11 (io), 35 A12 (io), 36 A13 (io), 37 ~{PMS} (out), 38 ~{DMS} (out), 39 ~{BMS} (out), 40 ~{BG} (out), 41 XTAL (in), 42 CLKIN (in), 43 CLKOUT (out), 44 WR (out), 45 RD (out), 46 DT0 (out), 47 TFS0 (io), 48 RFS0 (io), 49 GND (power), 50 DR0 (in), 51 SCLK0 (io), 52 FO/DT1 (out), 53 ~{IRQ}1/TFS1 (io), 54 ~{IRQ}0/RFS1 (io), 55 FI/DR1 (in), 56 SCLK1 (io), 57 VDD (power), 58 D0 (io), 59 D1 (io), 60 D2 (io), 61 D3 (io), 62 D4 (io), 63 D5 (io), 64 D6 (io), 65 D7 (io), 66 D8 (io), 67 D9 (io), 68 D10 (io)

## ADSP-2115BS-66
designator U?
25 MIPS, 5V, 2 Serial Port; Published: 24-Aug-2001; LatestRevisionDate: 13-Apr-2006; LatestRevisionNote: IPC-7351 Footprint Added.; DatasheetVersion: 1996; PackageReference: P-68A; Publisher: Altium Limited; PackageDescription: 68-Pin Leaded Chip Carrier 1.27 mm Pitch; Code_IPC: PLCC-68; ComponentLink1Description: Manufacturer Link; ComponentLink1URL: http://www.analog.com/; ComponentLink2Description: Datasheet; ComponentLink2URL: http://www.analog.com/UploadedFiles/Data_Sheets/88076770adsp21xx.pdf
footprint P-68A_N (Leaded Chip Carrier, 68-Leads, Body 24x24mm, Pitch 1.27mm, IPC Medium Density)
footprint P-68A_L (Leaded Chip Carrier, 68-Leads, Body 24x24mm, Pitch 1.27mm, IPC High Density)
footprint P-68A_M (Leaded Chip Carrier, 68-Leads, Body 24x24mm, Pitch 1.27mm, IPC Low Density)
3D model 2115-P-68A (68-Pin Leaded Chip Carrier 1.27 mm Pitch)
pins: 1 D11 (io), 2 GND (power), 3 D12 (io), 4 D13 (io), 5 D14 (io), 6 D15 (io), 7 D16 (io), 8 D17 (io), 9 D18 (io), 10 GND (power), 11 D19 (io), 12 D20 (io), 13 D21 (io), 14 D22 (io), 15 D23 (io), 16 VDD (power), 17 MMAP (in), 18 ~{BR} (in), 19 ~{IRQ}2 (io), 20 ~{RESET} (in), 21 A0 (out), 22 A1 (io), 23 A2 (io), 24 A3 (io), 25 A4 (io), 26 VDD (power), 27 A5 (io), 28 A6 (io), 29 GND (power), 30 A7 (io), 31 A8 (io), 32 A9 (io), 33 A10 (io), 34 A11 (io), 35 A12 (io), 36 A13 (io), 37 ~{PMS} (out), 38 ~{DMS} (out), 39 ~{BMS} (out), 40 ~{BG} (out), 41 XTAL (in), 42 CLKIN (in), 43 CLKOUT (out), 44 WR (out), 45 RD (out), 46 DT0 (out), 47 TFS0 (io), 48 RFS0 (io), 49 GND (power), 50 DR0 (in), 51 SCLK0 (io), 52 FO/DT1 (out), 53 ~{IRQ}1/TFS1 (io), 54 ~{IRQ}0/RFS1 (io), 55 FI/DR1 (in), 56 SCLK1 (io), 57 VDD (power), 58 D0 (io), 59 D1 (io), 60 D2 (io), 61 D3 (io), 62 D4 (io), 63 D5 (io), 64 D6 (io), 65 D7 (io), 66 D8 (io), 67 D9 (io), 68 D10 (io)

## ADSP-2115BS-80
designator U?
25 MIPS, 5V, 2 Serial Port; Published: 24-Aug-2001; LatestRevisionDate: 13-Apr-2006; LatestRevisionNote: IPC-7351 Footprint Added.; DatasheetVersion: 1996; PackageVersion: 1996; PackageReference: S-80; Publisher: Altium Limited; PackageDescription: 80-Pin Quad Flat Pack 0.65 mm Pitch; Code_IPC: QFP65P1720X1720-80; ComponentLink1Description: Manufacturer Link; ComponentLink1URL: http://www.analog.com/; ComponentLink2Description: Datasheet; ComponentLink2URL: http://www.analog.com/UploadedFiles/Data_Sheets/88076770adsp21xx.pdf
footprint S-80_N (QFP, 80-Leads, Body 14 x 14mm, Pitch 0.65mm, IPC Medium Density)
footprint S-80_L (QFP, 80-Leads, Body 14 x 14mm, Pitch 0.65mm, IPC High Density)
footprint S-80_M (QFP, 80-Leads, Body 14 x 14mm, Pitch 0.65mm, IPC Low Density)
3D model 2115-S80 (80-Pin Quad Flat Pack 0.65 mm Pitch)
pins: 1 A5 (io), 2 A6 (io), 3 GND (power), 4 GND (power), 5 A7 (io), 6 A8 (io), 7 A9 (io), 8 A10 (io), 9 A11 (io), 10 A12 (io), 11 A13 (io), 12 ~{PMS} (out), 13 ~{DMS} (out), 14 ~{BMS} (out), 15 ~{BG} (out), 16 XTAL (in), 17 CLKIN (in), 18 NC, 19 NC, 20 NC, 21 CLKOUT (out), 22 ~{WR} (out), 23 ~{RD} (out), 24 DT0 (out), 25 TFS0 (io), 26 RFS0 (io), 27 GND (power), 28 GND (power), 29 DR0 (in), 30 SCLK0 (io), 31 FO/DT1 (out), 32 ~{IRQ}1/TFS1 (io), 33 ~{IRQ}0/RFS1 (io), 34 FI/DR1 (in), 35 SCLK1 (io), 36 VDD (power), 37 D0 (io), 38 D1 (io), 39 D2 (io), 40 D3 (io), 41 NC, 42 NC, 43 NC, 44 D4 (io), 45 D5 (io), 46 D6 (io), 47 D7 (io), 48 D8 (io), 49 D9 (io), 50 D10 (io), 51 D11 (io), 52 GND (power), 53 GND (power), 54 D12 (io), 55 D13 (io), 56 D14 (io), 57 D15 (io), 58 D16 (io), 59 D17 (io), 60 D18 (io), 61 GND (power), 62 GND (power), 63 D19 (io), 64 D20 (io), 65 D21 (io), 66 D22 (io), 67 D23 (io), 68 VDD (power), 69 VDD (power), 70 MMAP (in), 71 ~{BR} (in), 72 ~{IRQ}2 (io), 73 ~{RESET} (in), 74 A0 (out), 75 A1 (io), 76 A2 (io), 77 A3 (io), 78 A4 (io), 79 VDD (power), 80 VDD (power)

## ADSP-2115BST-66
designator U?
25 MIPS, 5V, 2 Serial Port; Published: 24-Aug-2001; LatestRevisionDate: 13-Apr-2006; LatestRevisionNote: IPC-7351 Footprint Added.; DatasheetVersion: 1996; PackageVersion: 2000; PackageReference: ST-80; Publisher: Altium Limited; PackageDescription: 80-Pin Thin Quad Flat Pack 0.65 mm Pitch; ComponentLink1Description: Manufacturer Link; ComponentLink1URL: http://www.analog.com/; ComponentLink2Description: Datasheet; ComponentLink2URL: http://www.analog.com/UploadedFiles/Data_Sheets/88076770adsp21xx.pdf
footprint ST-80_N (Thin QFP, 80-Leads, Body 14 x 14mm, Pitch 0.65mm, IPC Medium Density)
footprint ST-80_L (Thin QFP, 80-Leads, Body 14 x 14mm, Pitch 0.65mm, IPC High Density)
footprint ST-80_M (Thin QFP, 80-Leads, Body 14 x 14mm, Pitch 0.65mm, IPC Low Density)
3D model 2115-ST80 (80-Pin Thin Quad Flat Pack 0.65 mm Pitch)
pins: 1 A5 (io), 2 A6 (io), 3 GND (power), 4 GND (power), 5 A7 (io), 6 A8 (io), 7 A9 (io), 8 A10 (io), 9 A11 (io), 10 A12 (io), 11 A13 (io), 12 ~{PMS} (out), 13 ~{DMS} (out), 14 ~{BMS} (out), 15 ~{BG} (out), 16 XTAL (in), 17 CLKIN (in), 18 NC, 19 NC, 20 NC, 21 CLKOUT (out), 22 ~{WR} (out), 23 ~{RD} (out), 24 DT0 (out), 25 TFS0 (io), 26 RFS0 (io), 27 GND (power), 28 GND (power), 29 DR0 (in), 30 SCLK0 (io), 31 FO/DT1 (out), 32 ~{IRQ}1/TFS1 (io), 33 ~{IRQ}0/RFS1 (io), 34 FI/DR1 (in), 35 SCLK1 (io), 36 VDD (power), 37 D0 (io), 38 D1 (io), 39 D2 (io), 40 D3 (io), 41 NC, 42 NC, 43 NC, 44 D4 (io), 45 D5 (io), 46 D6 (io), 47 D7 (io), 48 D8 (io), 49 D9 (io), 50 D10 (io), 51 D11 (io), 52 GND (power), 53 GND (power), 54 D12 (io), 55 D13 (io), 56 D14 (io), 57 D15 (io), 58 D16 (io), 59 D17 (io), 60 D18 (io), 61 GND (power), 62 GND (power), 63 D19 (io), 64 D20 (io), 65 D21 (io), 66 D22 (io), 67 D23 (io), 68 VDD (power), 69 VDD (power), 70 MMAP (in), 71 ~{BR} (in), 72 ~{IRQ}2 (io), 73 ~{RESET} (in), 74 A0 (out), 75 A1 (io), 76 A2 (io), 77 A3 (io), 78 A4 (io), 79 VDD (power), 80 VDD (power)

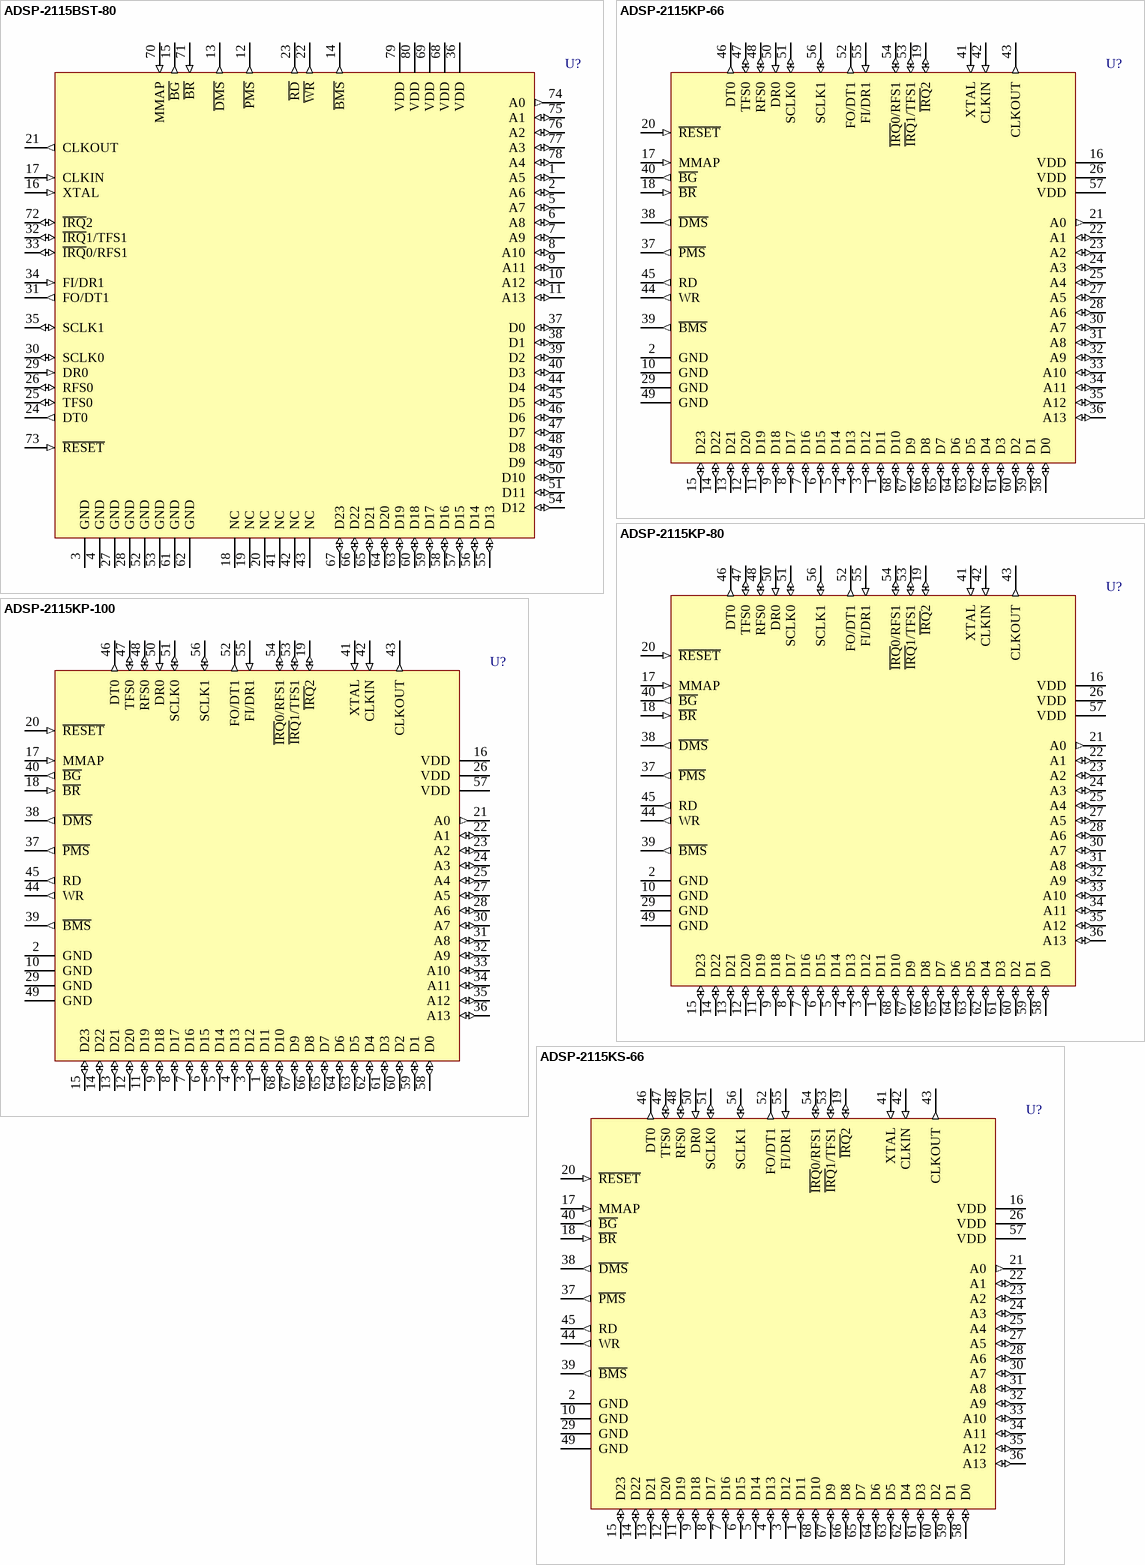
[diagram p10: symbols ADSP-2115BST-80 to ADSP-2115KS-66]

## ADSP-2115BST-80
designator U?
25 MIPS, 5V, 2 Serial Port; Published: 24-Aug-2001; LatestRevisionDate: 13-Apr-2006; LatestRevisionNote: IPC-7351 Footprint Added.; DatasheetVersion: 1996; PackageVersion: 2000; PackageReference: ST-80; Publisher: Altium Limited; PackageDescription: 80-Pin Thin Quad Flat Pack 0.65 mm Pitch; ComponentLink1Description: Manufacturer Link; ComponentLink1URL: http://www.analog.com/; ComponentLink2Description: Datasheet; ComponentLink2URL: http://www.analog.com/UploadedFiles/Data_Sheets/88076770adsp21xx.pdf
footprint ST-80_N (Thin QFP, 80-Leads, Body 14 x 14mm, Pitch 0.65mm, IPC Medium Density)
footprint ST-80_L (Thin QFP, 80-Leads, Body 14 x 14mm, Pitch 0.65mm, IPC High Density)
footprint ST-80_M (Thin QFP, 80-Leads, Body 14 x 14mm, Pitch 0.65mm, IPC Low Density)
3D model 2115-ST80 (80-Pin Thin Quad Flat Pack 0.65 mm Pitch)
pins: 1 A5 (io), 2 A6 (io), 3 GND (power), 4 GND (power), 5 A7 (io), 6 A8 (io), 7 A9 (io), 8 A10 (io), 9 A11 (io), 10 A12 (io), 11 A13 (io), 12 ~{PMS} (out), 13 ~{DMS} (out), 14 ~{BMS} (out), 15 ~{BG} (out), 16 XTAL (in), 17 CLKIN (in), 18 NC, 19 NC, 20 NC, 21 CLKOUT (out), 22 ~{WR} (out), 23 ~{RD} (out), 24 DT0 (out), 25 TFS0 (io), 26 RFS0 (io), 27 GND (power), 28 GND (power), 29 DR0 (in), 30 SCLK0 (io), 31 FO/DT1 (out), 32 ~{IRQ}1/TFS1 (io), 33 ~{IRQ}0/RFS1 (io), 34 FI/DR1 (in), 35 SCLK1 (io), 36 VDD (power), 37 D0 (io), 38 D1 (io), 39 D2 (io), 40 D3 (io), 41 NC, 42 NC, 43 NC, 44 D4 (io), 45 D5 (io), 46 D6 (io), 47 D7 (io), 48 D8 (io), 49 D9 (io), 50 D10 (io), 51 D11 (io), 52 GND (power), 53 GND (power), 54 D12 (io), 55 D13 (io), 56 D14 (io), 57 D15 (io), 58 D16 (io), 59 D17 (io), 60 D18 (io), 61 GND (power), 62 GND (power), 63 D19 (io), 64 D20 (io), 65 D21 (io), 66 D22 (io), 67 D23 (io), 68 VDD (power), 69 VDD (power), 70 MMAP (in), 71 ~{BR} (in), 72 ~{IRQ}2 (io), 73 ~{RESET} (in), 74 A0 (out), 75 A1 (io), 76 A2 (io), 77 A3 (io), 78 A4 (io), 79 VDD (power), 80 VDD (power)

## ADSP-2115KP-66
designator U?
25 MIPS, 5V, 2 Serial Port; Published: 24-Aug-2001; LatestRevisionDate: 13-Apr-2006; LatestRevisionNote: IPC-7351 Footprint Added.; DatasheetVersion: 1996; PackageReference: P-68A; Publisher: Altium Limited; PackageDescription: 68-Pin Leaded Chip Carrier 1.27 mm Pitch; Code_IPC: PLCC-68; ComponentLink1Description: Manufacturer Link; ComponentLink1URL: http://www.analog.com/; ComponentLink2Description: Datasheet; ComponentLink2URL: http://www.analog.com/UploadedFiles/Data_Sheets/88076770adsp21xx.pdf
footprint P-68A_N (Leaded Chip Carrier, 68-Leads, Body 24x24mm, Pitch 1.27mm, IPC Medium Density)
footprint P-68A_L (Leaded Chip Carrier, 68-Leads, Body 24x24mm, Pitch 1.27mm, IPC High Density)
footprint P-68A_M (Leaded Chip Carrier, 68-Leads, Body 24x24mm, Pitch 1.27mm, IPC Low Density)
3D model 2115-P-68A (68-Pin Leaded Chip Carrier 1.27 mm Pitch)
pins: 1 D11 (io), 2 GND (power), 3 D12 (io), 4 D13 (io), 5 D14 (io), 6 D15 (io), 7 D16 (io), 8 D17 (io), 9 D18 (io), 10 GND (power), 11 D19 (io), 12 D20 (io), 13 D21 (io), 14 D22 (io), 15 D23 (io), 16 VDD (power), 17 MMAP (in), 18 ~{BR} (in), 19 ~{IRQ}2 (io), 20 ~{RESET} (in), 21 A0 (out), 22 A1 (io), 23 A2 (io), 24 A3 (io), 25 A4 (io), 26 VDD (power), 27 A5 (io), 28 A6 (io), 29 GND (power), 30 A7 (io), 31 A8 (io), 32 A9 (io), 33 A10 (io), 34 A11 (io), 35 A12 (io), 36 A13 (io), 37 ~{PMS} (out), 38 ~{DMS} (out), 39 ~{BMS} (out), 40 ~{BG} (out), 41 XTAL (in), 42 CLKIN (in), 43 CLKOUT (out), 44 WR (out), 45 RD (out), 46 DT0 (out), 47 TFS0 (io), 48 RFS0 (io), 49 GND (power), 50 DR0 (in), 51 SCLK0 (io), 52 FO/DT1 (out), 53 ~{IRQ}1/TFS1 (io), 54 ~{IRQ}0/RFS1 (io), 55 FI/DR1 (in), 56 SCLK1 (io), 57 VDD (power), 58 D0 (io), 59 D1 (io), 60 D2 (io), 61 D3 (io), 62 D4 (io), 63 D5 (io), 64 D6 (io), 65 D7 (io), 66 D8 (io), 67 D9 (io), 68 D10 (io)

## ADSP-2115KP-80
designator U?
25 MIPS, 5V, 2 Serial Port; Published: 24-Aug-2001; LatestRevisionDate: 13-Apr-2006; LatestRevisionNote: IPC-7351 Footprint Added.; DatasheetVersion: 1996; PackageReference: P-68A; Publisher: Altium Limited; PackageDescription: 68-Pin Leaded Chip Carrier 1.27 mm Pitch; Code_IPC: PLCC-68; ComponentLink1Description: Manufacturer Link; ComponentLink1URL: http://www.analog.com/; ComponentLink2Description: Datasheet; ComponentLink2URL: http://www.analog.com/UploadedFiles/Data_Sheets/88076770adsp21xx.pdf
footprint P-68A_N (Leaded Chip Carrier, 68-Leads, Body 24x24mm, Pitch 1.27mm, IPC Medium Density)
footprint P-68A_L (Leaded Chip Carrier, 68-Leads, Body 24x24mm, Pitch 1.27mm, IPC High Density)
footprint P-68A_M (Leaded Chip Carrier, 68-Leads, Body 24x24mm, Pitch 1.27mm, IPC Low Density)
3D model 2115-P-68A (68-Pin Leaded Chip Carrier 1.27 mm Pitch)
pins: 1 D11 (io), 2 GND (power), 3 D12 (io), 4 D13 (io), 5 D14 (io), 6 D15 (io), 7 D16 (io), 8 D17 (io), 9 D18 (io), 10 GND (power), 11 D19 (io), 12 D20 (io), 13 D21 (io), 14 D22 (io), 15 D23 (io), 16 VDD (power), 17 MMAP (in), 18 ~{BR} (in), 19 ~{IRQ}2 (io), 20 ~{RESET} (in), 21 A0 (out), 22 A1 (io), 23 A2 (io), 24 A3 (io), 25 A4 (io), 26 VDD (power), 27 A5 (io), 28 A6 (io), 29 GND (power), 30 A7 (io), 31 A8 (io), 32 A9 (io), 33 A10 (io), 34 A11 (io), 35 A12 (io), 36 A13 (io), 37 ~{PMS} (out), 38 ~{DMS} (out), 39 ~{BMS} (out), 40 ~{BG} (out), 41 XTAL (in), 42 CLKIN (in), 43 CLKOUT (out), 44 WR (out), 45 RD (out), 46 DT0 (out), 47 TFS0 (io), 48 RFS0 (io), 49 GND (power), 50 DR0 (in), 51 SCLK0 (io), 52 FO/DT1 (out), 53 ~{IRQ}1/TFS1 (io), 54 ~{IRQ}0/RFS1 (io), 55 FI/DR1 (in), 56 SCLK1 (io), 57 VDD (power), 58 D0 (io), 59 D1 (io), 60 D2 (io), 61 D3 (io), 62 D4 (io), 63 D5 (io), 64 D6 (io), 65 D7 (io), 66 D8 (io), 67 D9 (io), 68 D10 (io)

## ADSP-2115KP-100
designator U?
25 MIPS, 5V, 2 Serial Port; Published: 24-Aug-2001; LatestRevisionDate: 13-Apr-2006; LatestRevisionNote: IPC-7351 Footprint Added.; DatasheetVersion: 1996; PackageReference: P-68A; Publisher: Altium Limited; PackageDescription: 68-Pin Leaded Chip Carrier 1.27 mm Pitch; Code_IPC: PLCC-68; ComponentLink1Description: Manufacturer Link; ComponentLink1URL: http://www.analog.com/; ComponentLink2Description: Datasheet; ComponentLink2URL: http://www.analog.com/UploadedFiles/Data_Sheets/88076770adsp21xx.pdf
footprint P-68A_N (Leaded Chip Carrier, 68-Leads, Body 24x24mm, Pitch 1.27mm, IPC Medium Density)
footprint P-68A_L (Leaded Chip Carrier, 68-Leads, Body 24x24mm, Pitch 1.27mm, IPC High Density)
footprint P-68A_M (Leaded Chip Carrier, 68-Leads, Body 24x24mm, Pitch 1.27mm, IPC Low Density)
3D model 2115-P-68A (68-Pin Leaded Chip Carrier 1.27 mm Pitch)
pins: 1 D11 (io), 2 GND (power), 3 D12 (io), 4 D13 (io), 5 D14 (io), 6 D15 (io), 7 D16 (io), 8 D17 (io), 9 D18 (io), 10 GND (power), 11 D19 (io), 12 D20 (io), 13 D21 (io), 14 D22 (io), 15 D23 (io), 16 VDD (power), 17 MMAP (in), 18 ~{BR} (in), 19 ~{IRQ}2 (io), 20 ~{RESET} (in), 21 A0 (out), 22 A1 (io), 23 A2 (io), 24 A3 (io), 25 A4 (io), 26 VDD (power), 27 A5 (io), 28 A6 (io), 29 GND (power), 30 A7 (io), 31 A8 (io), 32 A9 (io), 33 A10 (io), 34 A11 (io), 35 A12 (io), 36 A13 (io), 37 ~{PMS} (out), 38 ~{DMS} (out), 39 ~{BMS} (out), 40 ~{BG} (out), 41 XTAL (in), 42 CLKIN (in), 43 CLKOUT (out), 44 WR (out), 45 RD (out), 46 DT0 (out), 47 TFS0 (io), 48 RFS0 (io), 49 GND (power), 50 DR0 (in), 51 SCLK0 (io), 52 FO/DT1 (out), 53 ~{IRQ}1/TFS1 (io), 54 ~{IRQ}0/RFS1 (io), 55 FI/DR1 (in), 56 SCLK1 (io), 57 VDD (power), 58 D0 (io), 59 D1 (io), 60 D2 (io), 61 D3 (io), 62 D4 (io), 63 D5 (io), 64 D6 (io), 65 D7 (io), 66 D8 (io), 67 D9 (io), 68 D10 (io)

## ADSP-2115KS-66
designator U?
25 MIPS, 5V, 2 Serial Port; Published: 24-Aug-2001; LatestRevisionDate: 13-Apr-2006; LatestRevisionNote: IPC-7351 Footprint Added.; DatasheetVersion: 1996; PackageReference: P-68A; Publisher: Altium Limited; PackageDescription: 68-Pin Leaded Chip Carrier 1.27 mm Pitch; Code_IPC: PLCC-68; ComponentLink1Description: Manufacturer Link; ComponentLink1URL: http://www.analog.com/; ComponentLink2Description: Datasheet; ComponentLink2URL: http://www.analog.com/UploadedFiles/Data_Sheets/88076770adsp21xx.pdf
footprint P-68A_N (Leaded Chip Carrier, 68-Leads, Body 24x24mm, Pitch 1.27mm, IPC Medium Density)
footprint P-68A_L (Leaded Chip Carrier, 68-Leads, Body 24x24mm, Pitch 1.27mm, IPC High Density)
footprint P-68A_M (Leaded Chip Carrier, 68-Leads, Body 24x24mm, Pitch 1.27mm, IPC Low Density)
3D model 2115-P-68A (68-Pin Leaded Chip Carrier 1.27 mm Pitch)
pins: 1 D11 (io), 2 GND (power), 3 D12 (io), 4 D13 (io), 5 D14 (io), 6 D15 (io), 7 D16 (io), 8 D17 (io), 9 D18 (io), 10 GND (power), 11 D19 (io), 12 D20 (io), 13 D21 (io), 14 D22 (io), 15 D23 (io), 16 VDD (power), 17 MMAP (in), 18 ~{BR} (in), 19 ~{IRQ}2 (io), 20 ~{RESET} (in), 21 A0 (out), 22 A1 (io), 23 A2 (io), 24 A3 (io), 25 A4 (io), 26 VDD (power), 27 A5 (io), 28 A6 (io), 29 GND (power), 30 A7 (io), 31 A8 (io), 32 A9 (io), 33 A10 (io), 34 A11 (io), 35 A12 (io), 36 A13 (io), 37 ~{PMS} (out), 38 ~{DMS} (out), 39 ~{BMS} (out), 40 ~{BG} (out), 41 XTAL (in), 42 CLKIN (in), 43 CLKOUT (out), 44 WR (out), 45 RD (out), 46 DT0 (out), 47 TFS0 (io), 48 RFS0 (io), 49 GND (power), 50 DR0 (in), 51 SCLK0 (io), 52 FO/DT1 (out), 53 ~{IRQ}1/TFS1 (io), 54 ~{IRQ}0/RFS1 (io), 55 FI/DR1 (in), 56 SCLK1 (io), 57 VDD (power), 58 D0 (io), 59 D1 (io), 60 D2 (io), 61 D3 (io), 62 D4 (io), 63 D5 (io), 64 D6 (io), 65 D7 (io), 66 D8 (io), 67 D9 (io), 68 D10 (io)

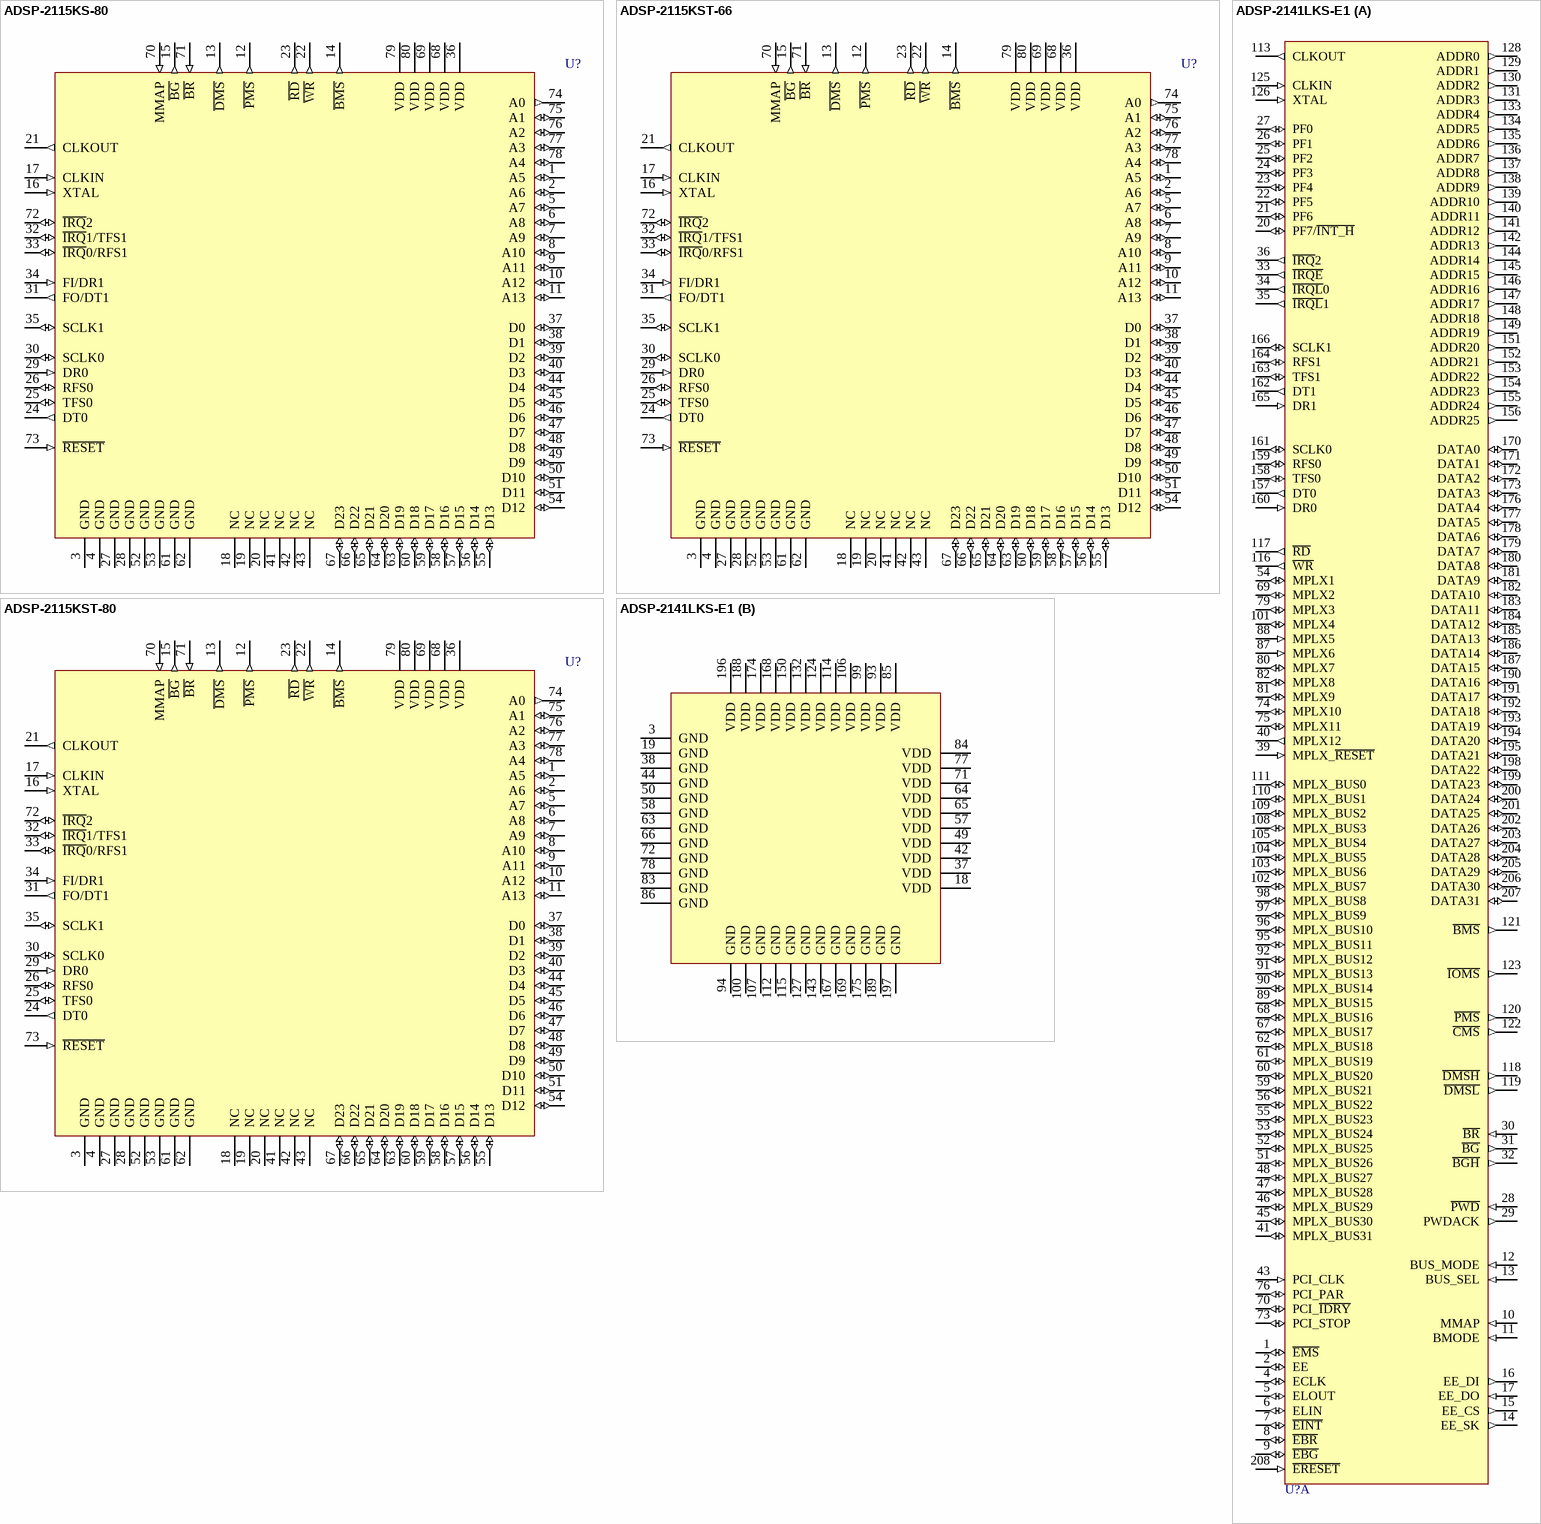
[diagram p11: symbols ADSP-2115KS-80 to ADSP-2141LKS-E1]

## ADSP-2115KS-80
designator U?
25 MIPS, 5V, 2 Serial Port; Published: 24-Aug-2001; LatestRevisionDate: 13-Apr-2006; LatestRevisionNote: IPC-7351 Footprint Added.; DatasheetVersion: 1996; PackageVersion: 1996; PackageReference: S-80; Publisher: Altium Limited; PackageDescription: 80-Pin Quad Flat Pack 0.65 mm Pitch; Code_IPC: QFP65P1720X1720-80; ComponentLink1Description: Manufacturer Link; ComponentLink1URL: http://www.analog.com/; ComponentLink2Description: Datasheet; ComponentLink2URL: http://www.analog.com/UploadedFiles/Data_Sheets/88076770adsp21xx.pdf
footprint S-80_N (QFP, 80-Leads, Body 14 x 14mm, Pitch 0.65mm, IPC Medium Density)
footprint S-80_L (QFP, 80-Leads, Body 14 x 14mm, Pitch 0.65mm, IPC High Density)
footprint S-80_M (QFP, 80-Leads, Body 14 x 14mm, Pitch 0.65mm, IPC Low Density)
3D model 2115-S80 (80-Pin Quad Flat Pack 0.65 mm Pitch)
pins: 1 A5 (io), 2 A6 (io), 3 GND (power), 4 GND (power), 5 A7 (io), 6 A8 (io), 7 A9 (io), 8 A10 (io), 9 A11 (io), 10 A12 (io), 11 A13 (io), 12 ~{PMS} (out), 13 ~{DMS} (out), 14 ~{BMS} (out), 15 ~{BG} (out), 16 XTAL (in), 17 CLKIN (in), 18 NC, 19 NC, 20 NC, 21 CLKOUT (out), 22 ~{WR} (out), 23 ~{RD} (out), 24 DT0 (out), 25 TFS0 (io), 26 RFS0 (io), 27 GND (power), 28 GND (power), 29 DR0 (in), 30 SCLK0 (io), 31 FO/DT1 (out), 32 ~{IRQ}1/TFS1 (io), 33 ~{IRQ}0/RFS1 (io), 34 FI/DR1 (in), 35 SCLK1 (io), 36 VDD (power), 37 D0 (io), 38 D1 (io), 39 D2 (io), 40 D3 (io), 41 NC, 42 NC, 43 NC, 44 D4 (io), 45 D5 (io), 46 D6 (io), 47 D7 (io), 48 D8 (io), 49 D9 (io), 50 D10 (io), 51 D11 (io), 52 GND (power), 53 GND (power), 54 D12 (io), 55 D13 (io), 56 D14 (io), 57 D15 (io), 58 D16 (io), 59 D17 (io), 60 D18 (io), 61 GND (power), 62 GND (power), 63 D19 (io), 64 D20 (io), 65 D21 (io), 66 D22 (io), 67 D23 (io), 68 VDD (power), 69 VDD (power), 70 MMAP (in), 71 ~{BR} (in), 72 ~{IRQ}2 (io), 73 ~{RESET} (in), 74 A0 (out), 75 A1 (io), 76 A2 (io), 77 A3 (io), 78 A4 (io), 79 VDD (power), 80 VDD (power)

## ADSP-2115KST-66
designator U?
25 MIPS, 5V, 2 Serial Port; Published: 24-Aug-2001; LatestRevisionDate: 13-Apr-2006; LatestRevisionNote: IPC-7351 Footprint Added.; DatasheetVersion: 1996; PackageVersion: 2000; PackageReference: ST-80; Publisher: Altium Limited; PackageDescription: 80-Pin Thin Quad Flat Pack 0.65 mm Pitch; ComponentLink1Description: Manufacturer Link; ComponentLink1URL: http://www.analog.com/; ComponentLink2Description: Datasheet; ComponentLink2URL: http://www.analog.com/UploadedFiles/Data_Sheets/88076770adsp21xx.pdf
footprint ST-80_N (Thin QFP, 80-Leads, Body 14 x 14mm, Pitch 0.65mm, IPC Medium Density)
footprint ST-80_L (Thin QFP, 80-Leads, Body 14 x 14mm, Pitch 0.65mm, IPC High Density)
footprint ST-80_M (Thin QFP, 80-Leads, Body 14 x 14mm, Pitch 0.65mm, IPC Low Density)
3D model 2115-ST80 (80-Pin Thin Quad Flat Pack 0.65 mm Pitch)
pins: 1 A5 (io), 2 A6 (io), 3 GND (power), 4 GND (power), 5 A7 (io), 6 A8 (io), 7 A9 (io), 8 A10 (io), 9 A11 (io), 10 A12 (io), 11 A13 (io), 12 ~{PMS} (out), 13 ~{DMS} (out), 14 ~{BMS} (out), 15 ~{BG} (out), 16 XTAL (in), 17 CLKIN (in), 18 NC, 19 NC, 20 NC, 21 CLKOUT (out), 22 ~{WR} (out), 23 ~{RD} (out), 24 DT0 (out), 25 TFS0 (io), 26 RFS0 (io), 27 GND (power), 28 GND (power), 29 DR0 (in), 30 SCLK0 (io), 31 FO/DT1 (out), 32 ~{IRQ}1/TFS1 (io), 33 ~{IRQ}0/RFS1 (io), 34 FI/DR1 (in), 35 SCLK1 (io), 36 VDD (power), 37 D0 (io), 38 D1 (io), 39 D2 (io), 40 D3 (io), 41 NC, 42 NC, 43 NC, 44 D4 (io), 45 D5 (io), 46 D6 (io), 47 D7 (io), 48 D8 (io), 49 D9 (io), 50 D10 (io), 51 D11 (io), 52 GND (power), 53 GND (power), 54 D12 (io), 55 D13 (io), 56 D14 (io), 57 D15 (io), 58 D16 (io), 59 D17 (io), 60 D18 (io), 61 GND (power), 62 GND (power), 63 D19 (io), 64 D20 (io), 65 D21 (io), 66 D22 (io), 67 D23 (io), 68 VDD (power), 69 VDD (power), 70 MMAP (in), 71 ~{BR} (in), 72 ~{IRQ}2 (io), 73 ~{RESET} (in), 74 A0 (out), 75 A1 (io), 76 A2 (io), 77 A3 (io), 78 A4 (io), 79 VDD (power), 80 VDD (power)

## ADSP-2115KST-80
designator U?
25 MIPS, 5V, 2 Serial Port; Published: 24-Aug-2001; LatestRevisionDate: 13-Apr-2006; LatestRevisionNote: IPC-7351 Footprint Added.; DatasheetVersion: 1996; PackageVersion: 2000; PackageReference: ST-80; Publisher: Altium Limited; PackageDescription: 80-Pin Thin Quad Flat Pack 0.65 mm Pitch; ComponentLink1Description: Manufacturer Link; ComponentLink1URL: http://www.analog.com/; ComponentLink2Description: Datasheet; ComponentLink2URL: http://www.analog.com/UploadedFiles/Data_Sheets/88076770adsp21xx.pdf
footprint ST-80_N (Thin QFP, 80-Leads, Body 14 x 14mm, Pitch 0.65mm, IPC Medium Density)
footprint ST-80_L (Thin QFP, 80-Leads, Body 14 x 14mm, Pitch 0.65mm, IPC High Density)
footprint ST-80_M (Thin QFP, 80-Leads, Body 14 x 14mm, Pitch 0.65mm, IPC Low Density)
3D model 2115-ST80 (80-Pin Thin Quad Flat Pack 0.65 mm Pitch)
pins: 1 A5 (io), 2 A6 (io), 3 GND (power), 4 GND (power), 5 A7 (io), 6 A8 (io), 7 A9 (io), 8 A10 (io), 9 A11 (io), 10 A12 (io), 11 A13 (io), 12 ~{PMS} (out), 13 ~{DMS} (out), 14 ~{BMS} (out), 15 ~{BG} (out), 16 XTAL (in), 17 CLKIN (in), 18 NC, 19 NC, 20 NC, 21 CLKOUT (out), 22 ~{WR} (out), 23 ~{RD} (out), 24 DT0 (out), 25 TFS0 (io), 26 RFS0 (io), 27 GND (power), 28 GND (power), 29 DR0 (in), 30 SCLK0 (io), 31 FO/DT1 (out), 32 ~{IRQ}1/TFS1 (io), 33 ~{IRQ}0/RFS1 (io), 34 FI/DR1 (in), 35 SCLK1 (io), 36 VDD (power), 37 D0 (io), 38 D1 (io), 39 D2 (io), 40 D3 (io), 41 NC, 42 NC, 43 NC, 44 D4 (io), 45 D5 (io), 46 D6 (io), 47 D7 (io), 48 D8 (io), 49 D9 (io), 50 D10 (io), 51 D11 (io), 52 GND (power), 53 GND (power), 54 D12 (io), 55 D13 (io), 56 D14 (io), 57 D15 (io), 58 D16 (io), 59 D17 (io), 60 D18 (io), 61 GND (power), 62 GND (power), 63 D19 (io), 64 D20 (io), 65 D21 (io), 66 D22 (io), 67 D23 (io), 68 VDD (power), 69 VDD (power), 70 MMAP (in), 71 ~{BR} (in), 72 ~{IRQ}2 (io), 73 ~{RESET} (in), 74 A0 (out), 75 A1 (io), 76 A2 (io), 77 A3 (io), 78 A4 (io), 79 VDD (power), 80 VDD (power)

## ADSP-2141LKS-E1
designator U?
SafeNet DSP Security System; Published: 24-Aug-2001; LatestRevisionDate: 13-Apr-2006; LatestRevisionNote: IPC-7351 Footprint Added.; DatasheetVersion: 2000; PackageVersion: 2000; PackageReference: S-208; Publisher: Altium Limited; PackageDescription: 208-Pin Shrink Quad Flat Pack 0.5 mm Pitch; ComponentLink1Description: Manufacturer Link; ComponentLink1URL: http://www.analog.com/
footprint S-208_N (Shrink QFP, 208-Leads, Body 28x28mm, Pitch 0.5mm, IPC Medium Density)
footprint S-208_L (Shrink QFP, 208-Leads, Body 28x28mm, Pitch 0.5mm, IPC High Density)
footprint S-208_M (Shrink QFP, 208-Leads, Body 28x28mm, Pitch 0.5mm, IPC Low Density)
3D model 2141L-S208 (208-Pin Shrink Quad Flat Pack 0.5 mm Pitch)
part A pins: 1 ~{EMS} (io), 2 EE (io), 4 ECLK (io), 5 ELOUT (io), 6 ELIN (io), 7 ~{EINT} (io), 8 ~{EBR} (io), 9 ~{EBG} (io), 10 MMAP (in), 11 BMODE (in), 12 BUS_MODE (in), 13 BUS_SEL (in), 14 EE_SK (out), 15 EE_CS (out), 16 EE_DI (out), 17 EE_DO (in), 20 PF7/~{INT_H} (io), 21 PF6 (io), 22 PF5 (io), 23 PF4 (io), 24 PF3 (io), 25 PF2 (io), 26 PF1 (io), 27 PF0 (io), 28 ~{PWD} (in), 29 PWDACK (out), 30 ~{BR} (in), 31 ~{BG} (out), 32 ~{BGH} (out), 33 ~{IRQE} (out), 34 ~{IRQL}0 (out), 35 ~{IRQL}1 (out), 36 ~{IRQ}2 (out), 39 MPLX_~{RESET} (in), 40 MPLX12 (out), 41 MPLX_BUS31 (io), 43 PCI_CLK (in), 45 MPLX_BUS30 (io), 46 MPLX_BUS29 (io), 47 MPLX_BUS28 (io), 48 MPLX_BUS27 (io), 51 MPLX_BUS26 (io), 52 MPLX_BUS25 (io), 53 MPLX_BUS24 (io), 54 MPLX1 (io), 55 MPLX_BUS23 (io), 56 MPLX_BUS22 (io), 59 MPLX_BUS21 (io), 60 MPLX_BUS20 (io), 61 MPLX_BUS19 (io), 62 MPLX_BUS18 (io), 67 MPLX_BUS17 (io), 68 MPLX_BUS16 (io), 69 MPLX2 (io), 70 PCI_~{IDRY} (io), 73 PCI_STOP (io), 74 MPLX10 (io), 75 MPLX11 (io), 76 PCI_PAR (io), 79 MPLX3 (io), 80 MPLX7 (io), 81 MPLX9 (io), 82 MPLX8 (io), 87 MPLX6 (in), 88 MPLX5 (in), 89 MPLX_BUS15 (io), 90 MPLX_BUS14 (io), 91 MPLX_BUS13 (io), 92 MPLX_BUS12 (io), 95 MPLX_BUS11 (io), 96 MPLX_BUS10 (io), 97 MPLX_BUS9 (io), 98 MPLX_BUS8 (io), 101 MPLX4 (io), 102 MPLX_BUS7 (io), 103 MPLX_BUS6 (io), 104 MPLX_BUS5 (io), 105 MPLX_BUS4 (io), 108 MPLX_BUS3 (io), 109 MPLX_BUS2 (io), 110 MPLX_BUS1 (io), 111 MPLX_BUS0 (io), 113 CLKOUT (out), 116 ~{WR} (out), 117 ~{RD} (out), 118 ~{DMSH} (out), 119 ~{DMSL} (out), 120 ~{PMS} (out), 121 ~{BMS} (out), 122 ~{CMS} (out), 123 ~{IOMS} (out), 125 CLKIN (in), 126 XTAL (in), 128 ADDR0 (out), 129 ADDR1 (out), 130 ADDR2 (out), 131 ADDR3 (out), 133 ADDR4 (out), 134 ADDR5 (out), 135 ADDR6 (out), 136 ADDR7 (out), 137 ADDR8 (out), 138 ADDR9 (out), 139 ADDR10 (out), 140 ADDR11 (out), 141 ADDR12 (out), 142 ADDR13 (out), 144 ADDR14 (out), 145 ADDR15 (out), 146 ADDR16 (out), 147 ADDR17 (out), 148 ADDR18 (out), 149 ADDR19 (out), 151 ADDR20 (out), 152 ADDR21 (out), 153 ADDR22 (out), 154 ADDR23 (out), 155 ADDR24 (out), 156 ADDR25 (out), 157 DT0 (out), 158 TFS0 (io), 159 RFS0 (io), 160 DR0 (in), 161 SCLK0 (io), 162 DT1 (out), 163 TFS1 (io), 164 RFS1 (io), 165 DR1 (in), 166 SCLK1 (io), 170 DATA0 (io), 171 DATA1 (io), 172 DATA2 (io), 173 DATA3 (io), 176 DATA4 (io), 177 DATA5 (io), 178 DATA6 (io), 179 DATA7 (io), 180 DATA8 (io), 181 DATA9 (io), 182 DATA10 (io), 183 DATA11 (io), 184 DATA12 (io), 185 DATA13 (io), 186 DATA14 (io), 187 DATA15 (io), 190 DATA16 (io), 191 DATA17 (io), 192 DATA18 (io), 193 DATA19 (io), 194 DATA20 (io), 195 DATA21 (io), 198 DATA22 (io), 199 DATA23 (io), 200 DATA24 (io), 201 DATA25 (io), 202 DATA26 (io), 203 DATA27 (io), 204 DATA28 (io), 205 DATA29 (io), 206 DATA30 (io), 207 DATA31 (io), 208 ~{ERESET} (in)
part B pins: 3 GND (power), 18 VDD (power), 19 GND (power), 37 VDD (power), 38 GND (power), 42 VDD (power), 44 GND (power), 49 VDD (power), 50 GND (power), 57 VDD (power), 58 GND (power), 63 GND (power), 64 VDD (power), 65 VDD (power), 66 GND (power), 71 VDD (power), 72 GND (power), 77 VDD (power), 78 GND (power), 83 GND (power), 84 VDD (power), 85 VDD (power), 86 GND (power), 93 VDD (power), 94 GND (power), 99 VDD (power), 100 GND (power), 106 VDD (power), 107 GND (power), 112 GND (power), 114 VDD (power), 115 GND (power), 124 VDD (power), 127 GND (power), 132 VDD (power), 143 GND (power), 150 VDD (power), 167 GND (power), 168 VDD (power), 169 GND (power), 174 VDD (power), 175 GND (power), 188 VDD (power), 189 GND (power), 196 VDD (power), 197 GND (power)

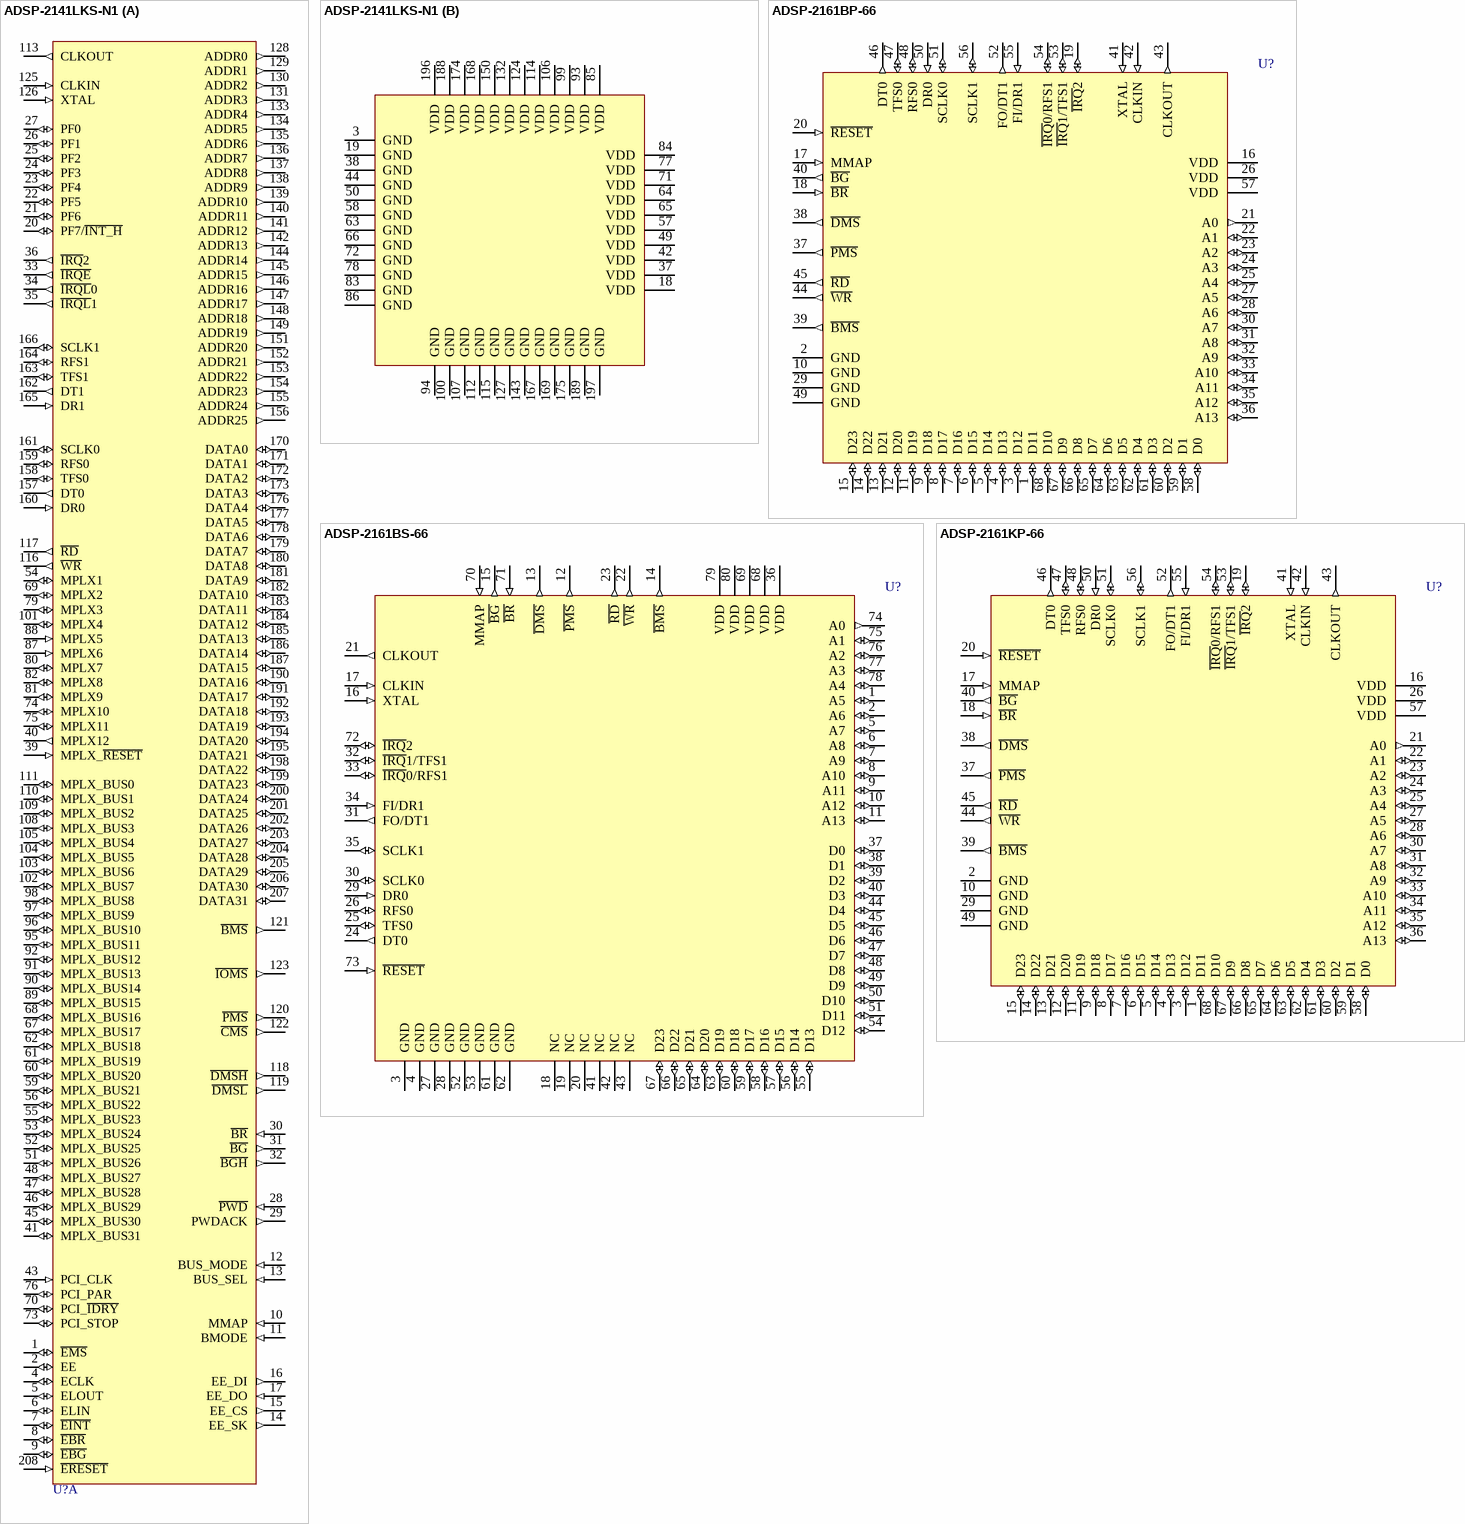
[diagram p12: symbols ADSP-2141LKS-N1 to ADSP-2161KP-66]